# Altium schematic symbol library FPGA_Xilinx_Artix7.SchLib: 27 symbols (part 4 of 5)
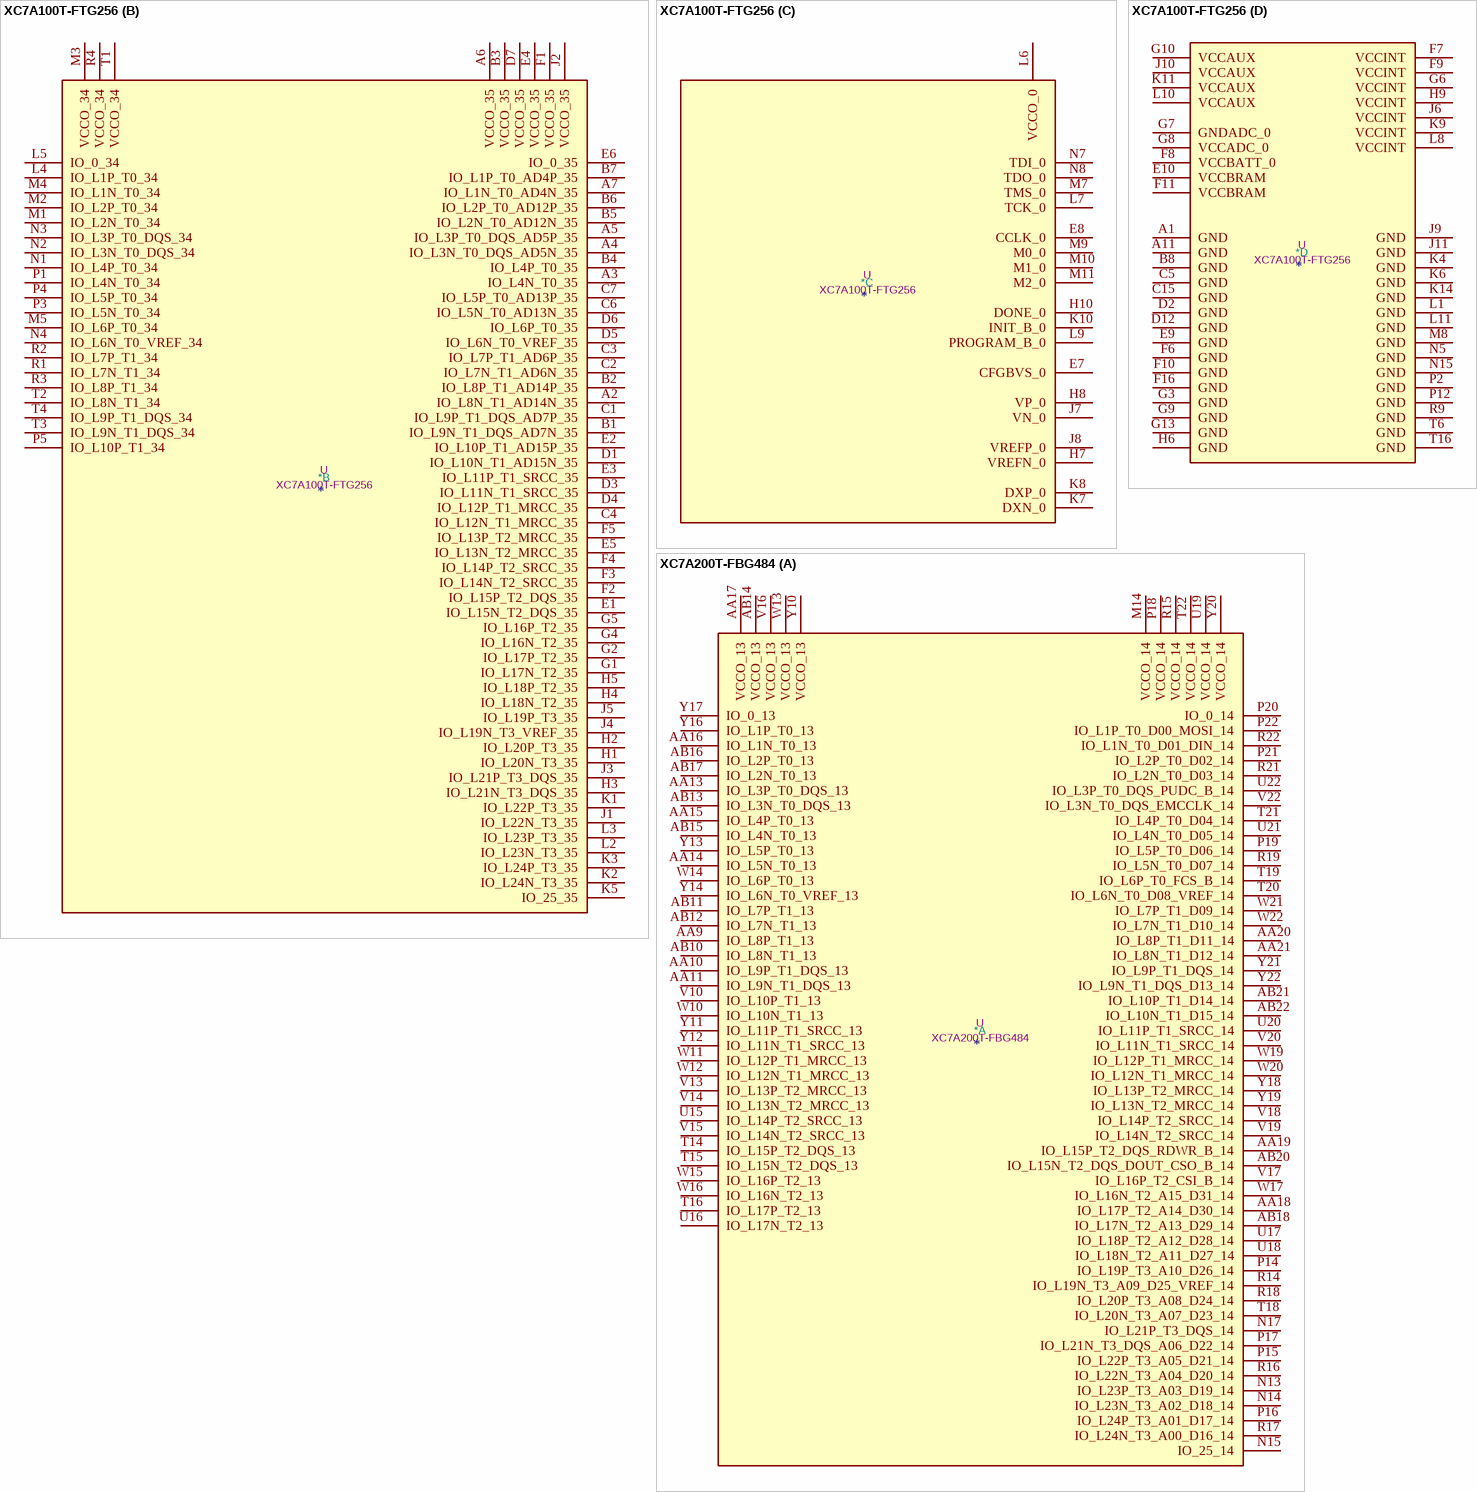
[diagram p50: symbols XC7A100T-FTG256 to XC7A200T-FBG484]

## XC7A100T-FTG256
designator *  value XC7A100T-FTG256  Reference: U
Artix 7 T 100 XC7A100T-FTG256; ki_keywords: FPGA; Description_: Artix 7 T 100 XC7A100T-FTG256
part A pins: A8 IO_L2P_T0_AD8P_15, A9 IO_L2N_T0_AD8N_15, A10 IO_L3N_T0_DQS_AD1N_15, A12 IO_L5N_T0_AD9N_15, A13 IO_L7P_T1_AD2P_15, A14 IO_L7N_T1_AD2N_15, A15 IO_L9N_T1_DQS_AD3N_15, A16 VCCO_15, B9 IO_L3P_T0_DQS_AD1P_15, B10 IO_L4P_T0_15, B11 IO_L4N_T0_15, B12 IO_L5P_T0_AD9P_15, B13 VCCO_15, B14 IO_L8N_T1_AD10N_15, B15 IO_L9P_T1_DQS_AD3P_15, B16 IO_L10N_T1_AD11N_15, C8 IO_L1P_T0_AD0P_15, C9 IO_L1N_T0_AD0N_15, C10 VCCO_15, C11 IO_L11P_T1_SRCC_15, C12 IO_L11N_T1_SRCC_15, C13 IO_L12N_T1_MRCC_15, C14 IO_L8P_T1_AD10P_15, C16 IO_L10P_T1_AD11P_15, D8 IO_L6P_T0_15, D9 IO_L6N_T0_VREF_15, D10 IO_0_15, D11 IO_L14N_T2_SRCC_15, D13 IO_L12P_T1_MRCC_15, D14 IO_L15P_T2_DQS_15, D15 IO_L15N_T2_DQS_ADV_B_15, D16 IO_L17N_T2_A25_15, E11 IO_L14P_T2_SRCC_15, E12 IO_L13P_T2_MRCC_15, E13 IO_L13N_T2_MRCC_15, E14 VCCO_15, E15 IO_L18N_T2_A23_15, E16 IO_L17P_T2_A26_15, F12 IO_L16P_T2_A28_15, F13 IO_L16N_T2_A27_15, F14 IO_L21N_T3_DQS_A18_15, F15 IO_L18P_T2_A24_15, G11 IO_25_15, G12 IO_L19N_T3_A21_VREF_15, G14 IO_L21P_T3_DQS_15, G15 IO_L24N_T3_RS0_15, G16 IO_L22N_T3_A16_15, H11 IO_L19P_T3_A22_15, H12 IO_L20P_T3_A20_15, H13 IO_L20N_T3_A19_15, H14 IO_L24P_T3_RS1_15, H15 VCCO_15, H16 IO_L22P_T3_A17_15, J12 VCCO_15, J13 IO_L1P_T0_D00_MOSI_14, J14 IO_L1N_T0_D01_DIN_14, J15 IO_L23P_T3_FOE_B_15, J16 IO_L23N_T3_FWE_B_15, K12 IO_0_14, K13 IO_L5P_T0_D06_14, K15 IO_L2P_T0_D02_14, K16 IO_L2N_T0_D03_14, L12 IO_L6P_T0_FCS_B_14, L13 IO_L5N_T0_D07_14, L14 IO_L4P_T0_D04_14, L15 IO_L3P_T0_DQS_PUDC_B_14, L16 VCCO_14, M6 IO_L19P_T3_A10_D26_14, M12 IO_L6N_T0_D08_VREF_14, M13 VCCO_14, M14 IO_L4N_T0_D05_14, M15 IO_L3N_T0_DQS_EMCCLK_14, M16 IO_L7P_T1_D09_14, N6 IO_L19N_T3_A09_D25_VREF_14, N9 IO_L18P_T2_A12_D28_14, N10 VCCO_14, N11 IO_L13P_T2_MRCC_14, N12 IO_L13N_T2_MRCC_14, N13 IO_L11P_T1_SRCC_14, N14 IO_L12P_T1_MRCC_14, N16 IO_L7N_T1_D10_14, P6 IO_25_14, P7 VCCO_14, P8 IO_L20P_T3_A08_D24_14, P9 IO_L18N_T2_A11_D27_14, P10 IO_L14P_T2_SRCC_14, P11 IO_L14N_T2_SRCC_14, P13 IO_L11N_T1_SRCC_14, P14 IO_L12N_T1_MRCC_14, P15 IO_L8P_T1_D11_14, P16 IO_L8N_T1_D12_14, R5 IO_L23P_T3_A03_D19_14, R6 IO_L24P_T3_A01_D17_14, R7 IO_L24N_T3_A00_D16_14, R8 IO_L20N_T3_A07_D23_14, R10 IO_L17P_T2_A14_D30_14, R11 IO_L17N_T2_A13_D29_14, R12 IO_L15P_T2_DQS_RDWR_B_14, R13 IO_L16P_T2_CSI_B_14, R14 VCCO_14, R15 IO_L9P_T1_DQS_14, R16 IO_L9N_T1_DQS_D13_14, T5 IO_L23N_T3_A02_D18_14, T7 IO_L21P_T3_DQS_14, T8 IO_L21N_T3_DQS_A06_D22_14, T9 IO_L22P_T3_A05_D21_14, T10 IO_L22N_T3_A04_D20_14, T11 VCCO_14, T12 IO_L15N_T2_DQS_DOUT_CSO_B_14, T13 IO_L16N_T2_A15_D31_14, T14 IO_L10P_T1_D14_14, T15 IO_L10N_T1_D15_14
part B pins: A2 IO_L8N_T1_AD14N_35, A3 IO_L4N_T0_35, A4 IO_L3N_T0_DQS_AD5N_35, A5 IO_L3P_T0_DQS_AD5P_35, A6 VCCO_35, A7 IO_L1N_T0_AD4N_35, B1 IO_L9N_T1_DQS_AD7N_35, B2 IO_L8P_T1_AD14P_35, B3 VCCO_35, B4 IO_L4P_T0_35, B5 IO_L2N_T0_AD12N_35, B6 IO_L2P_T0_AD12P_35, B7 IO_L1P_T0_AD4P_35, C1 IO_L9P_T1_DQS_AD7P_35, C2 IO_L7N_T1_AD6N_35, C3 IO_L7P_T1_AD6P_35, C4 IO_L12N_T1_MRCC_35, C6 IO_L5N_T0_AD13N_35, C7 IO_L5P_T0_AD13P_35, D1 IO_L10N_T1_AD15N_35, D3 IO_L11N_T1_SRCC_35, D4 IO_L12P_T1_MRCC_35, D5 IO_L6N_T0_VREF_35, D6 IO_L6P_T0_35, D7 VCCO_35, E1 IO_L15N_T2_DQS_35, E2 IO_L10P_T1_AD15P_35, E3 IO_L11P_T1_SRCC_35, E4 VCCO_35, E5 IO_L13N_T2_MRCC_35, E6 IO_0_35, F1 VCCO_35, F2 IO_L15P_T2_DQS_35, F3 IO_L14N_T2_SRCC_35, F4 IO_L14P_T2_SRCC_35, F5 IO_L13P_T2_MRCC_35, G1 IO_L17N_T2_35, G2 IO_L17P_T2_35, G4 IO_L16N_T2_35, G5 IO_L16P_T2_35, H1 IO_L20N_T3_35, H2 IO_L20P_T3_35, H3 IO_L21N_T3_DQS_35, H4 IO_L18N_T2_35, H5 IO_L18P_T2_35, J1 IO_L22N_T3_35, J2 VCCO_35, J3 IO_L21P_T3_DQS_35, J4 IO_L19N_T3_VREF_35, J5 IO_L19P_T3_35, K1 IO_L22P_T3_35, K2 IO_L24N_T3_35, K3 IO_L24P_T3_35, K5 IO_25_35, L2 IO_L23N_T3_35, L3 IO_L23P_T3_35, L4 IO_L1P_T0_34, L5 IO_0_34, M1 IO_L2N_T0_34, M2 IO_L2P_T0_34, M3 VCCO_34, M4 IO_L1N_T0_34, M5 IO_L6P_T0_34, N1 IO_L4P_T0_34, N2 IO_L3N_T0_DQS_34, N3 IO_L3P_T0_DQS_34, N4 IO_L6N_T0_VREF_34, P1 IO_L4N_T0_34, P3 IO_L5N_T0_34, P4 IO_L5P_T0_34, P5 IO_L10P_T1_34, R1 IO_L7N_T1_34, R2 IO_L7P_T1_34, R3 IO_L8P_T1_34, R4 VCCO_34, T1 VCCO_34, T2 IO_L8N_T1_34, T3 IO_L9N_T1_DQS_34, T4 IO_L9P_T1_DQS_34
part C pins: E7 CFGBVS_0, E8 CCLK_0, H7 VREFN_0, H8 VP_0, H10 DONE_0, J7 VN_0, J8 VREFP_0, K7 DXN_0, K8 DXP_0, K10 INIT_B_0, L6 VCCO_0, L7 TCK_0, L9 PROGRAM_B_0, M7 TMS_0, M9 M0_0, M10 M1_0, M11 M2_0, N7 TDI_0, N8 TDO_0
part D pins: A1 GND, A11 GND, B8 GND, C5 GND, C15 GND, D2 GND, D12 GND, E9 GND, E10 VCCBRAM, F6 GND, F7 VCCINT, F8 VCCBATT_0, F9 VCCINT, F10 GND, F11 VCCBRAM, F16 GND, G3 GND, G6 VCCINT, G7 GNDADC_0, G8 VCCADC_0, G9 GND, G10 VCCAUX, G13 GND, H6 GND, H9 VCCINT, J6 VCCINT, J9 GND, J10 VCCAUX, J11 GND, K4 GND, K6 GND, K9 VCCINT, K11 VCCAUX, K14 GND, L1 GND, L8 VCCINT, L10 VCCAUX, L11 GND, M8 GND, N5 GND, N15 GND, P2 GND, P12 GND, R9 GND, T6 GND, T16 GND

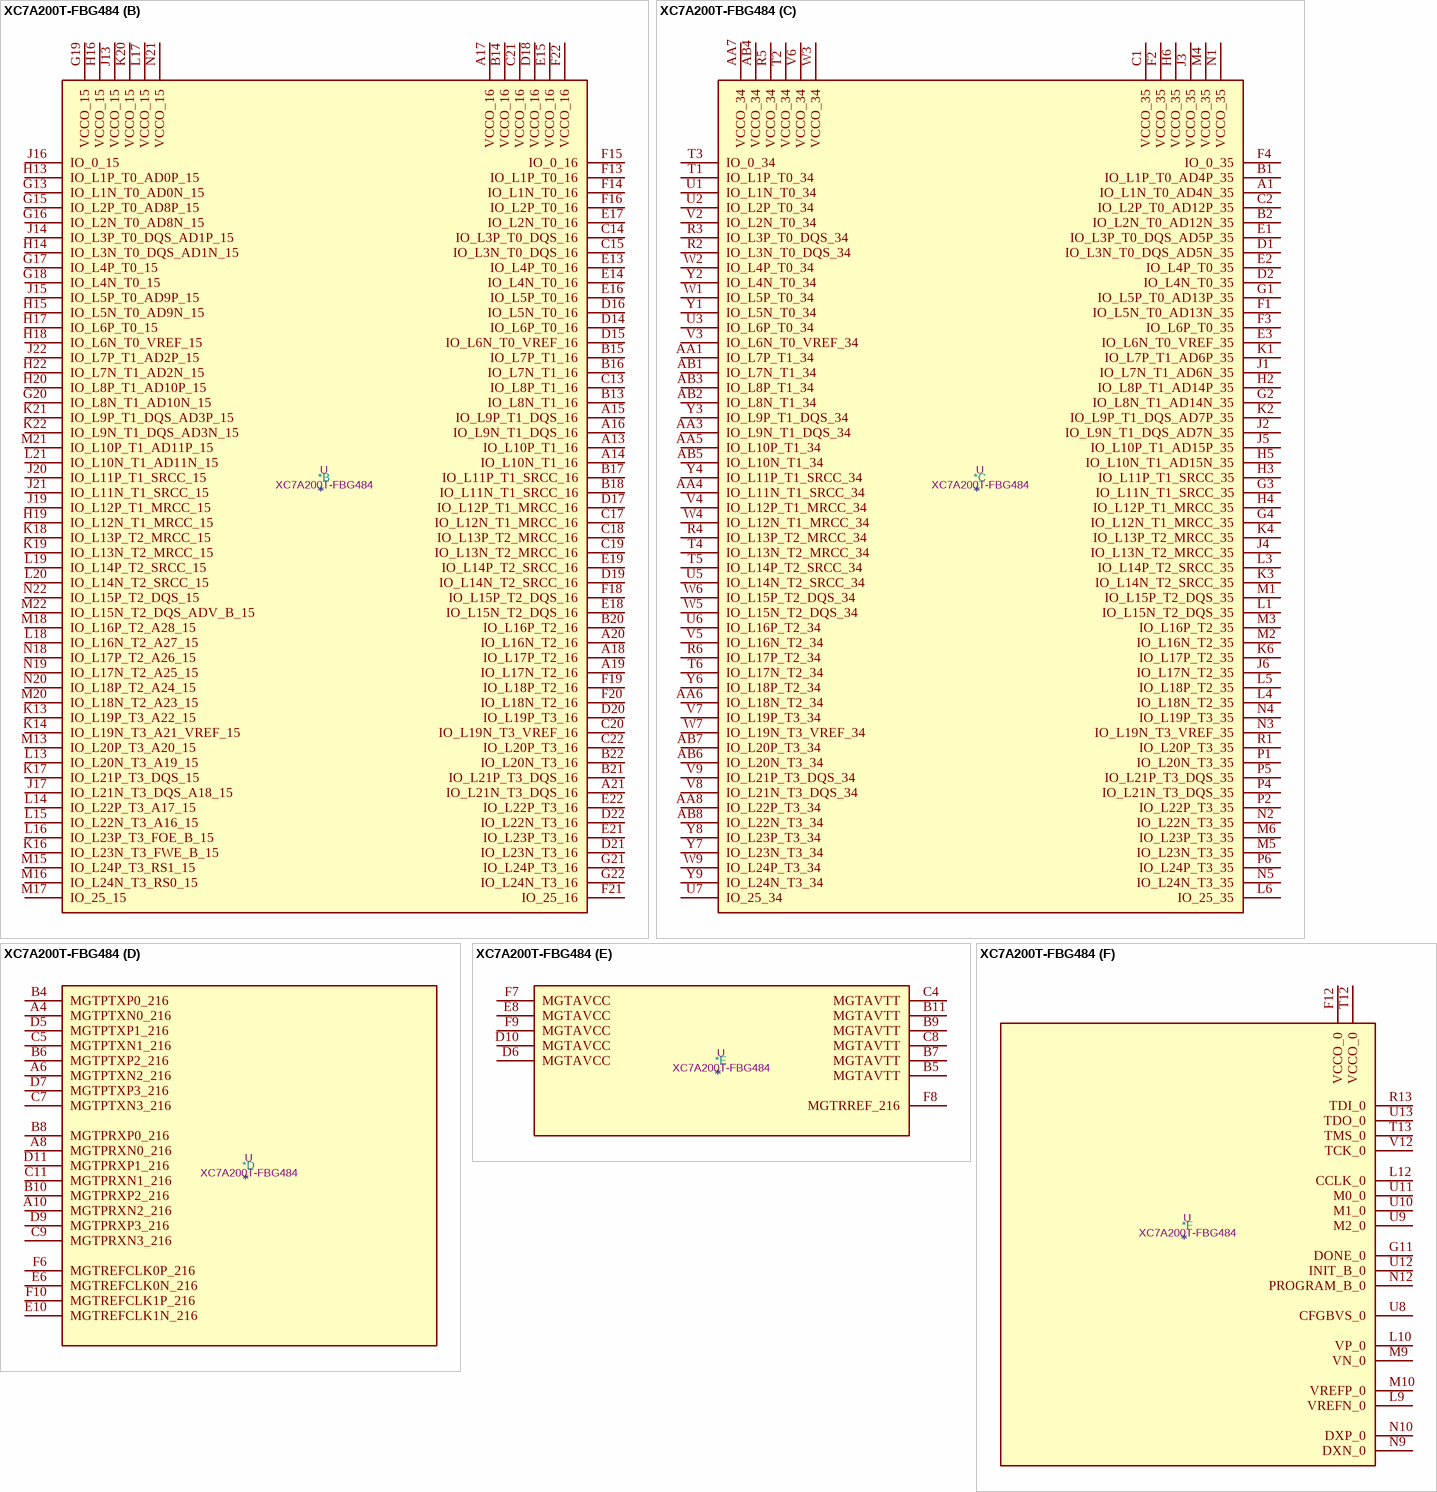
[diagram p38: symbol XC7A200T-FBG484]

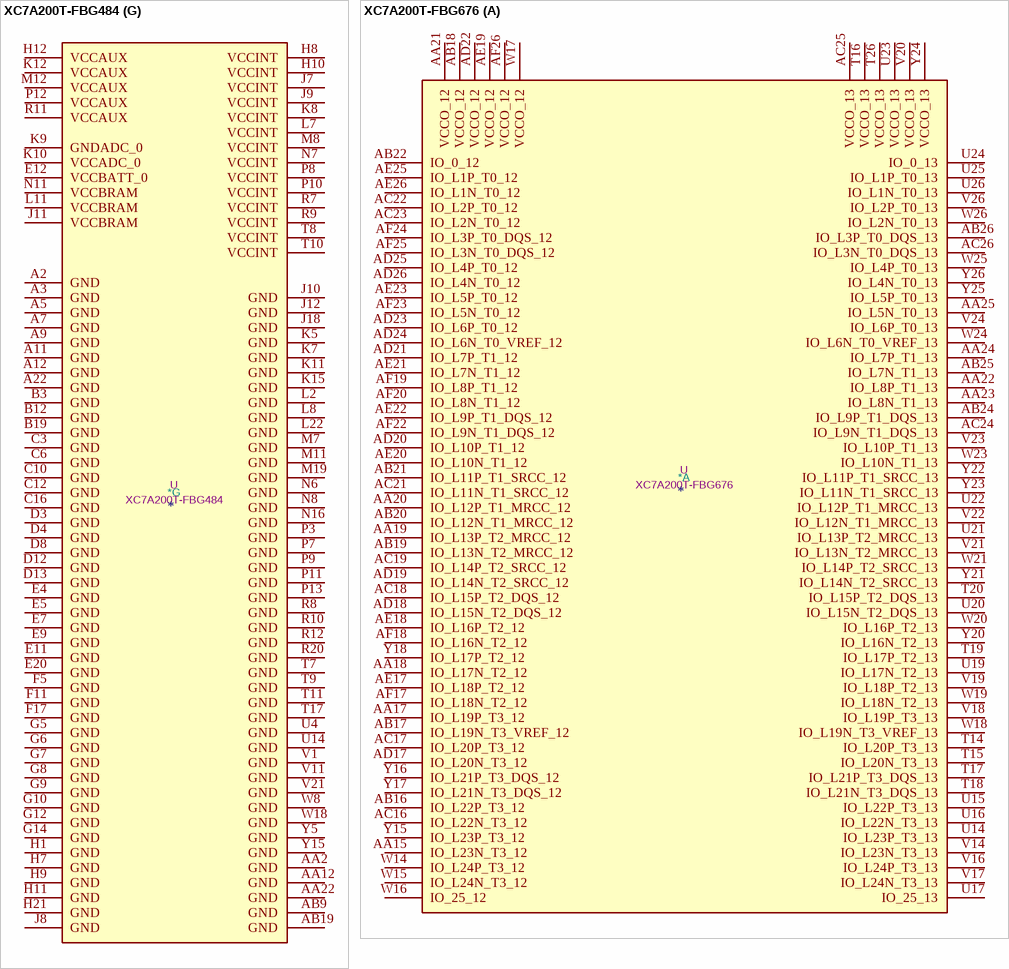
[diagram p39: symbols XC7A200T-FBG484 to XC7A200T-FBG676]

## XC7A200T-FBG484
designator *  value XC7A200T-FBG484  Reference: U
Artix 7 T 200 XC7A200T-FBG484; ki_keywords: FPGA; Description_: Artix 7 T 200 XC7A200T-FBG484
part A pins: AA9 IO_L8P_T1_13, AA10 IO_L9P_T1_DQS_13, AA11 IO_L9N_T1_DQS_13, AA13 IO_L3P_T0_DQS_13, AA14 IO_L5N_T0_13, AA15 IO_L4P_T0_13, AA16 IO_L1N_T0_13, AA17 VCCO_13, AA18 IO_L17P_T2_A14_D30_14, AA19 IO_L15P_T2_DQS_RDWR_B_14, AA20 IO_L8P_T1_D11_14, AA21 IO_L8N_T1_D12_14, AB10 IO_L8N_T1_13, AB11 IO_L7P_T1_13, AB12 IO_L7N_T1_13, AB13 IO_L3N_T0_DQS_13, AB14 VCCO_13, AB15 IO_L4N_T0_13, AB16 IO_L2P_T0_13, AB17 IO_L2N_T0_13, AB18 IO_L17N_T2_A13_D29_14, AB20 IO_L15N_T2_DQS_DOUT_CSO_B_14, AB21 IO_L10P_T1_D14_14, AB22 IO_L10N_T1_D15_14, M14 VCCO_14, N13 IO_L23P_T3_A03_D19_14, N14 IO_L23N_T3_A02_D18_14, N15 IO_25_14, N17 IO_L21P_T3_DQS_14, P14 IO_L19P_T3_A10_D26_14, P15 IO_L22P_T3_A05_D21_14, P16 IO_L24P_T3_A01_D17_14, P17 IO_L21N_T3_DQS_A06_D22_14, P18 VCCO_14, P19 IO_L5P_T0_D06_14, P20 IO_0_14, P21 IO_L2P_T0_D02_14, P22 IO_L1P_T0_D00_MOSI_14, R14 IO_L19N_T3_A09_D25_VREF_14, R15 VCCO_14, R16 IO_L22N_T3_A04_D20_14, R17 IO_L24N_T3_A00_D16_14, R18 IO_L20P_T3_A08_D24_14, R19 IO_L5N_T0_D07_14, R21 IO_L2N_T0_D03_14, R22 IO_L1N_T0_D01_DIN_14, T14 IO_L15P_T2_DQS_13, T15 IO_L15N_T2_DQS_13, T16 IO_L17P_T2_13, T18 IO_L20N_T3_A07_D23_14, T19 IO_L6P_T0_FCS_B_14, T20 IO_L6N_T0_D08_VREF_14, T21 IO_L4P_T0_D04_14, T22 VCCO_14, U15 IO_L14P_T2_SRCC_13, U16 IO_L17N_T2_13, U17 IO_L18P_T2_A12_D28_14, U18 IO_L18N_T2_A11_D27_14, U19 VCCO_14, U20 IO_L11P_T1_SRCC_14, U21 IO_L4N_T0_D05_14, U22 IO_L3P_T0_DQS_PUDC_B_14, V10 IO_L10P_T1_13, V13 IO_L13P_T2_MRCC_13, V14 IO_L13N_T2_MRCC_13, V15 IO_L14N_T2_SRCC_13, V16 VCCO_13, V17 IO_L16P_T2_CSI_B_14, V18 IO_L14P_T2_SRCC_14, V19 IO_L14N_T2_SRCC_14, V20 IO_L11N_T1_SRCC_14, V22 IO_L3N_T0_DQS_EMCCLK_14, W10 IO_L10N_T1_13, W11 IO_L12P_T1_MRCC_13, W12 IO_L12N_T1_MRCC_13, W13 VCCO_13, W14 IO_L6P_T0_13, W15 IO_L16P_T2_13, W16 IO_L16N_T2_13, W17 IO_L16N_T2_A15_D31_14, W19 IO_L12P_T1_MRCC_14, W20 IO_L12N_T1_MRCC_14, W21 IO_L7P_T1_D09_14, W22 IO_L7N_T1_D10_14, Y10 VCCO_13, Y11 IO_L11P_T1_SRCC_13, Y12 IO_L11N_T1_SRCC_13, Y13 IO_L5P_T0_13, Y14 IO_L6N_T0_VREF_13, Y16 IO_L1P_T0_13, Y17 IO_0_13, Y18 IO_L13P_T2_MRCC_14, Y19 IO_L13N_T2_MRCC_14, Y20 VCCO_14, Y21 IO_L9P_T1_DQS_14, Y22 IO_L9N_T1_DQS_D13_14
part B pins: A13 IO_L10P_T1_16, A14 IO_L10N_T1_16, A15 IO_L9P_T1_DQS_16, A16 IO_L9N_T1_DQS_16, A17 VCCO_16, A18 IO_L17P_T2_16, A19 IO_L17N_T2_16, A20 IO_L16N_T2_16, A21 IO_L21N_T3_DQS_16, B13 IO_L8N_T1_16, B14 VCCO_16, B15 IO_L7P_T1_16, B16 IO_L7N_T1_16, B17 IO_L11P_T1_SRCC_16, B18 IO_L11N_T1_SRCC_16, B20 IO_L16P_T2_16, B21 IO_L21P_T3_DQS_16, B22 IO_L20N_T3_16, C13 IO_L8P_T1_16, C14 IO_L3P_T0_DQS_16, C15 IO_L3N_T0_DQS_16, C17 IO_L12N_T1_MRCC_16, C18 IO_L13P_T2_MRCC_16, C19 IO_L13N_T2_MRCC_16, C20 IO_L19N_T3_VREF_16, C21 VCCO_16, C22 IO_L20P_T3_16, D14 IO_L6P_T0_16, D15 IO_L6N_T0_VREF_16, D16 IO_L5N_T0_16, D17 IO_L12P_T1_MRCC_16, D18 VCCO_16, D19 IO_L14N_T2_SRCC_16, D20 IO_L19P_T3_16, D21 IO_L23N_T3_16, D22 IO_L22N_T3_16, E13 IO_L4P_T0_16, E14 IO_L4N_T0_16, E15 VCCO_16, E16 IO_L5P_T0_16, E17 IO_L2N_T0_16, E18 IO_L15N_T2_DQS_16, E19 IO_L14P_T2_SRCC_16, E21 IO_L23P_T3_16, E22 IO_L22P_T3_16, F13 IO_L1P_T0_16, F14 IO_L1N_T0_16, F15 IO_0_16, F16 IO_L2P_T0_16, F18 IO_L15P_T2_DQS_16, F19 IO_L18P_T2_16, F20 IO_L18N_T2_16, F21 IO_25_16, F22 VCCO_16, G13 IO_L1N_T0_AD0N_15, G15 IO_L2P_T0_AD8P_15, G16 IO_L2N_T0_AD8N_15, G17 IO_L4P_T0_15, G18 IO_L4N_T0_15, G19 VCCO_15, G20 IO_L8N_T1_AD10N_15, G21 IO_L24P_T3_16, G22 IO_L24N_T3_16, H13 IO_L1P_T0_AD0P_15, H14 IO_L3N_T0_DQS_AD1N_15, H15 IO_L5N_T0_AD9N_15, H16 VCCO_15, H17 IO_L6P_T0_15, H18 IO_L6N_T0_VREF_15, H19 IO_L12N_T1_MRCC_15, H20 IO_L8P_T1_AD10P_15, H22 IO_L7N_T1_AD2N_15, J13 VCCO_15, J14 IO_L3P_T0_DQS_AD1P_15, J15 IO_L5P_T0_AD9P_15, J16 IO_0_15, J17 IO_L21N_T3_DQS_A18_15, J19 IO_L12P_T1_MRCC_15, J20 IO_L11P_T1_SRCC_15, J21 IO_L11N_T1_SRCC_15, J22 IO_L7P_T1_AD2P_15, K13 IO_L19P_T3_A22_15, K14 IO_L19N_T3_A21_VREF_15, K16 IO_L23N_T3_FWE_B_15, K17 IO_L21P_T3_DQS_15, K18 IO_L13P_T2_MRCC_15, K19 IO_L13N_T2_MRCC_15, K20 VCCO_15, K21 IO_L9P_T1_DQS_AD3P_15, K22 IO_L9N_T1_DQS_AD3N_15, L13 IO_L20N_T3_A19_15, L14 IO_L22P_T3_A17_15, L15 IO_L22N_T3_A16_15, L16 IO_L23P_T3_FOE_B_15, L17 VCCO_15, L18 IO_L16N_T2_A27_15, L19 IO_L14P_T2_SRCC_15, L20 IO_L14N_T2_SRCC_15, L21 IO_L10N_T1_AD11N_15, M13 IO_L20P_T3_A20_15, M15 IO_L24P_T3_RS1_15, M16 IO_L24N_T3_RS0_15, M17 IO_25_15, M18 IO_L16P_T2_A28_15, M20 IO_L18N_T2_A23_15, M21 IO_L10P_T1_AD11P_15, M22 IO_L15N_T2_DQS_ADV_B_15, N18 IO_L17P_T2_A26_15, N19 IO_L17N_T2_A25_15, N20 IO_L18P_T2_A24_15, N21 VCCO_15, N22 IO_L15P_T2_DQS_15
part C pins: A1 IO_L1N_T0_AD4N_35, AA1 IO_L7P_T1_34, AA3 IO_L9N_T1_DQS_34, AA4 IO_L11N_T1_SRCC_34, AA5 IO_L10P_T1_34, AA6 IO_L18N_T2_34, AA7 VCCO_34, AA8 IO_L22P_T3_34, AB1 IO_L7N_T1_34, AB2 IO_L8N_T1_34, AB3 IO_L8P_T1_34, AB4 VCCO_34, AB5 IO_L10N_T1_34, AB6 IO_L20N_T3_34, AB7 IO_L20P_T3_34, AB8 IO_L22N_T3_34, B1 IO_L1P_T0_AD4P_35, B2 IO_L2N_T0_AD12N_35, C1 VCCO_35, C2 IO_L2P_T0_AD12P_35, D1 IO_L3N_T0_DQS_AD5N_35, D2 IO_L4N_T0_35, E1 IO_L3P_T0_DQS_AD5P_35, E2 IO_L4P_T0_35, E3 IO_L6N_T0_VREF_35, F1 IO_L5N_T0_AD13N_35, F2 VCCO_35, F3 IO_L6P_T0_35, F4 IO_0_35, G1 IO_L5P_T0_AD13P_35, G2 IO_L8N_T1_AD14N_35, G3 IO_L11N_T1_SRCC_35, G4 IO_L12N_T1_MRCC_35, H2 IO_L8P_T1_AD14P_35, H3 IO_L11P_T1_SRCC_35, H4 IO_L12P_T1_MRCC_35, H5 IO_L10N_T1_AD15N_35, H6 VCCO_35, J1 IO_L7N_T1_AD6N_35, J2 IO_L9N_T1_DQS_AD7N_35, J3 VCCO_35, J4 IO_L13N_T2_MRCC_35, J5 IO_L10P_T1_AD15P_35, J6 IO_L17N_T2_35, K1 IO_L7P_T1_AD6P_35, K2 IO_L9P_T1_DQS_AD7P_35, K3 IO_L14N_T2_SRCC_35, K4 IO_L13P_T2_MRCC_35, K6 IO_L17P_T2_35, L1 IO_L15N_T2_DQS_35, L3 IO_L14P_T2_SRCC_35, L4 IO_L18N_T2_35, L5 IO_L18P_T2_35, L6 IO_25_35, M1 IO_L15P_T2_DQS_35, M2 IO_L16N_T2_35, M3 IO_L16P_T2_35, M4 VCCO_35, M5 IO_L23N_T3_35, M6 IO_L23P_T3_35, N1 VCCO_35, N2 IO_L22N_T3_35, N3 IO_L19N_T3_VREF_35, N4 IO_L19P_T3_35, N5 IO_L24N_T3_35, P1 IO_L20N_T3_35, P2 IO_L22P_T3_35, P4 IO_L21N_T3_DQS_35, P5 IO_L21P_T3_DQS_35, P6 IO_L24P_T3_35, R1 IO_L20P_T3_35, R2 IO_L3N_T0_DQS_34, R3 IO_L3P_T0_DQS_34, R4 IO_L13P_T2_MRCC_34, R5 VCCO_34, R6 IO_L17P_T2_34, T1 IO_L1P_T0_34, T2 VCCO_34, T3 IO_0_34, T4 IO_L13N_T2_MRCC_34, T5 IO_L14P_T2_SRCC_34, T6 IO_L17N_T2_34, U1 IO_L1N_T0_34, U2 IO_L2P_T0_34, U3 IO_L6P_T0_34, U5 IO_L14N_T2_SRCC_34, U6 IO_L16P_T2_34, U7 IO_25_34, V2 IO_L2N_T0_34, V3 IO_L6N_T0_VREF_34, V4 IO_L12P_T1_MRCC_34, V5 IO_L16N_T2_34, V6 VCCO_34, V7 IO_L19P_T3_34, V8 IO_L21N_T3_DQS_34, V9 IO_L21P_T3_DQS_34, W1 IO_L5P_T0_34, W2 IO_L4P_T0_34, W3 VCCO_34, W4 IO_L12N_T1_MRCC_34, W5 IO_L15N_T2_DQS_34, W6 IO_L15P_T2_DQS_34, W7 IO_L19N_T3_VREF_34, W9 IO_L24P_T3_34, Y1 IO_L5N_T0_34, Y2 IO_L4N_T0_34, Y3 IO_L9P_T1_DQS_34, Y4 IO_L11P_T1_SRCC_34, Y6 IO_L18P_T2_34, Y7 IO_L23N_T3_34, Y8 IO_L23P_T3_34, Y9 IO_L24N_T3_34
part D pins: A4 MGTPTXN0_216, A6 MGTPTXN2_216, A8 MGTPRXN0_216, A10 MGTPRXN2_216, B4 MGTPTXP0_216, B6 MGTPTXP2_216, B8 MGTPRXP0_216, B10 MGTPRXP2_216, C5 MGTPTXN1_216, C7 MGTPTXN3_216, C9 MGTPRXN3_216, C11 MGTPRXN1_216, D5 MGTPTXP1_216, D7 MGTPTXP3_216, D9 MGTPRXP3_216, D11 MGTPRXP1_216, E6 MGTREFCLK0N_216, E10 MGTREFCLK1N_216, F6 MGTREFCLK0P_216, F10 MGTREFCLK1P_216
part E pins: B5 MGTAVTT, B7 MGTAVTT, B9 MGTAVTT, B11 MGTAVTT, C4 MGTAVTT, C8 MGTAVTT, D6 MGTAVCC, D10 MGTAVCC, E8 MGTAVCC, F7 MGTAVCC, F8 MGTRREF_216, F9 MGTAVCC
part F pins: F12 VCCO_0, G11 DONE_0, L9 VREFN_0, L10 VP_0, L12 CCLK_0, M9 VN_0, M10 VREFP_0, N9 DXN_0, N10 DXP_0, N12 PROGRAM_B_0, R13 TDI_0, T12 VCCO_0, T13 TMS_0, U8 CFGBVS_0, U9 M2_0, U10 M1_0, U11 M0_0, U12 INIT_B_0, U13 TDO_0, V12 TCK_0
part G pins: A2 GND, A3 GND, A5 GND, A7 GND, A9 GND, A11 GND, A12 GND, A22 GND, AA2 GND, AA12 GND, AA22 GND, AB9 GND, AB19 GND, B3 GND, B12 GND, B19 GND, C3 GND, C6 GND, C10 GND, C12 GND, C16 GND, D3 GND, D4 GND, D8 GND, D12 GND, D13 GND, E4 GND, E5 GND, E7 GND, E9 GND, E11 GND, E12 VCCBATT_0, E20 GND, F5 GND, F11 GND, F17 GND, G5 GND, G6 GND, G7 GND, G8 GND, G9 GND, G10 GND, G12 GND, G14 GND, H1 GND, H7 GND, H8 VCCINT, H9 GND, H10 VCCINT, H11 GND, H12 VCCAUX, H21 GND, J7 VCCINT, J8 GND, J9 VCCINT, J10 GND, J11 VCCBRAM, J12 GND, J18 GND, K5 GND, K7 GND, K8 VCCINT, K9 GNDADC_0, K10 VCCADC_0, K11 GND, K12 VCCAUX, K15 GND, L2 GND, L7 VCCINT, L8 GND, L11 VCCBRAM, L22 GND, M7 GND, M8 VCCINT, M11 GND, M12 VCCAUX, M19 GND, N6 GND, N7 VCCINT, N8 GND, N11 VCCBRAM, N16 GND, P3 GND, P7 GND, P8 VCCINT, P9 GND, P10 VCCINT, P11 GND, P12 VCCAUX, P13 GND, R7 VCCINT, R8 GND, R9 VCCINT, R10 GND, R11 VCCAUX, R12 GND, R20 GND, T7 GND, T8 VCCINT, T9 GND, T10 VCCINT, T11 GND, T17 GND, U4 GND, U14 GND, V1 GND, V11 GND, V21 GND, W8 GND, W18 GND, Y5 GND, Y15 GND

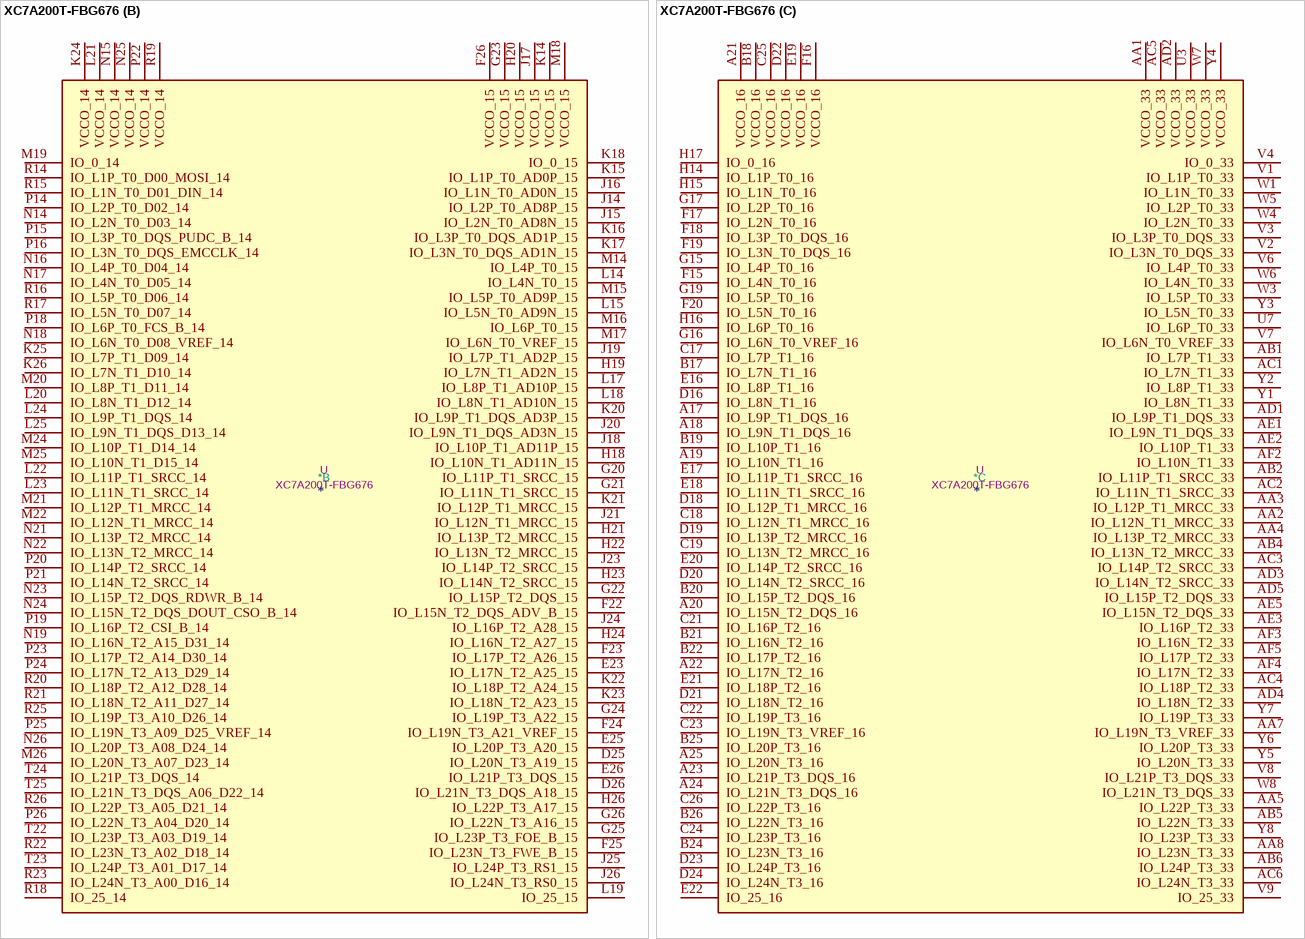
[diagram p40: symbol XC7A200T-FBG676]

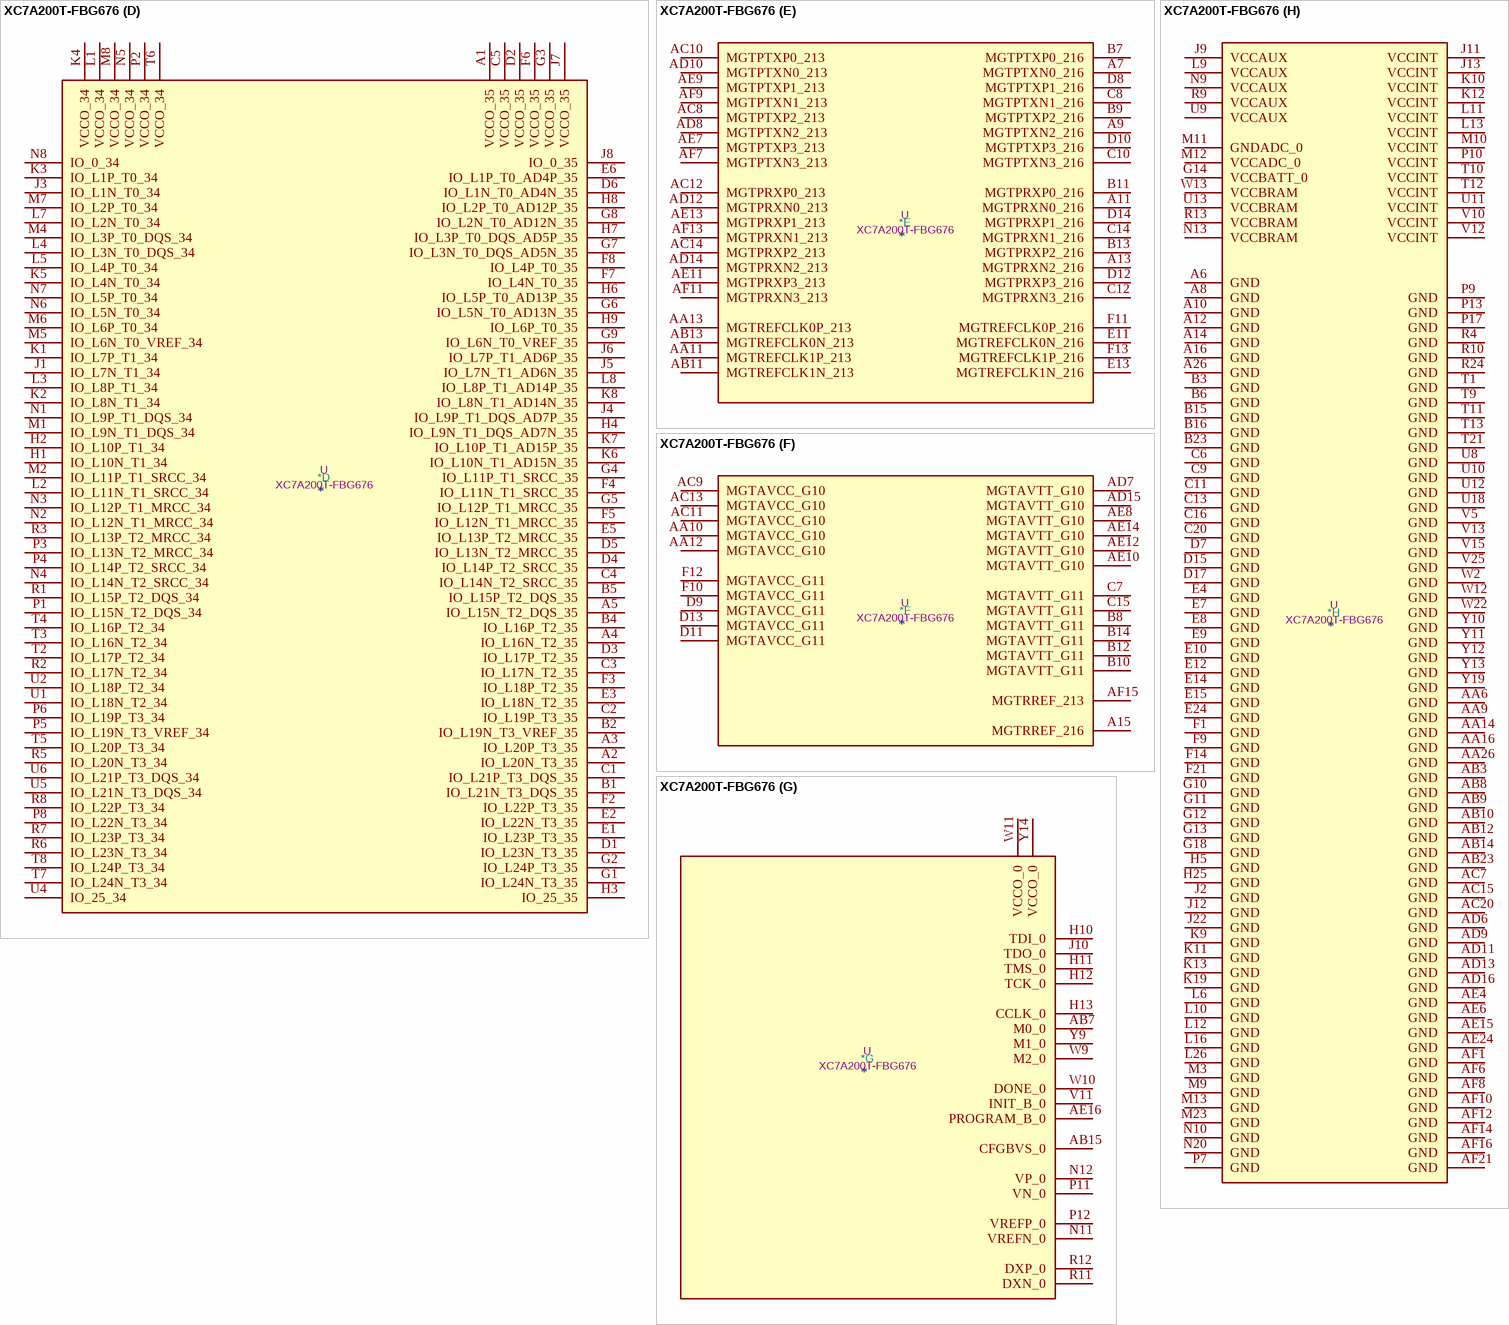
[diagram p41: symbol XC7A200T-FBG676]

## XC7A200T-FBG676
designator *  value XC7A200T-FBG676  Reference: U
Artix 7 T 200 XC7A200T-FBG676; ki_keywords: FPGA; Description_: Artix 7 T 200 XC7A200T-FBG676
part A pins: AA15 IO_L23N_T3_12, AA17 IO_L19P_T3_12, AA18 IO_L17N_T2_12, AA19 IO_L13P_T2_MRCC_12, AA20 IO_L12P_T1_MRCC_12, AA21 VCCO_12, AA22 IO_L8P_T1_13, AA23 IO_L8N_T1_13, AA24 IO_L7P_T1_13, AA25 IO_L5N_T0_13, AB16 IO_L22P_T3_12, AB17 IO_L19N_T3_VREF_12, AB18 VCCO_12, AB19 IO_L13N_T2_MRCC_12, AB20 IO_L12N_T1_MRCC_12, AB21 IO_L11P_T1_SRCC_12, AB22 IO_0_12, AB24 IO_L9P_T1_DQS_13, AB25 IO_L7N_T1_13, AB26 IO_L3P_T0_DQS_13, AC16 IO_L22N_T3_12, AC17 IO_L20P_T3_12, AC18 IO_L15P_T2_DQS_12, AC19 IO_L14P_T2_SRCC_12, AC21 IO_L11N_T1_SRCC_12, AC22 IO_L2P_T0_12, AC23 IO_L2N_T0_12, AC24 IO_L9N_T1_DQS_13, AC25 VCCO_13, AC26 IO_L3N_T0_DQS_13, AD17 IO_L20N_T3_12, AD18 IO_L15N_T2_DQS_12, AD19 IO_L14N_T2_SRCC_12, AD20 IO_L10P_T1_12, AD21 IO_L7P_T1_12, AD22 VCCO_12, AD23 IO_L6P_T0_12, AD24 IO_L6N_T0_VREF_12, AD25 IO_L4P_T0_12, AD26 IO_L4N_T0_12, AE17 IO_L18P_T2_12, AE18 IO_L16P_T2_12, AE19 VCCO_12, AE20 IO_L10N_T1_12, AE21 IO_L7N_T1_12, AE22 IO_L9P_T1_DQS_12, AE23 IO_L5P_T0_12, AE25 IO_L1P_T0_12, AE26 IO_L1N_T0_12, AF17 IO_L18N_T2_12, AF18 IO_L16N_T2_12, AF19 IO_L8P_T1_12, AF20 IO_L8N_T1_12, AF22 IO_L9N_T1_DQS_12, AF23 IO_L5N_T0_12, AF24 IO_L3P_T0_DQS_12, AF25 IO_L3N_T0_DQS_12, AF26 VCCO_12, T14 IO_L20P_T3_13, T15 IO_L20N_T3_13, T16 VCCO_13, T17 IO_L21P_T3_DQS_13, T18 IO_L21N_T3_DQS_13, T19 IO_L17P_T2_13, T20 IO_L15P_T2_DQS_13, T26 VCCO_13, U14 IO_L23P_T3_13, U15 IO_L22P_T3_13, U16 IO_L22N_T3_13, U17 IO_25_13, U19 IO_L17N_T2_13, U20 IO_L15N_T2_DQS_13, U21 IO_L13P_T2_MRCC_13, U22 IO_L12P_T1_MRCC_13, U23 VCCO_13, U24 IO_0_13, U25 IO_L1P_T0_13, U26 IO_L1N_T0_13, V14 IO_L23N_T3_13, V16 IO_L24P_T3_13, V17 IO_L24N_T3_13, V18 IO_L19P_T3_13, V19 IO_L18P_T2_13, V20 VCCO_13, V21 IO_L13N_T2_MRCC_13, V22 IO_L12N_T1_MRCC_13, V23 IO_L10P_T1_13, V24 IO_L6P_T0_13, V26 IO_L2P_T0_13, W14 IO_L24P_T3_12, W15 IO_L24N_T3_12, W16 IO_25_12, W17 VCCO_12, W18 IO_L19N_T3_VREF_13, W19 IO_L18N_T2_13, W20 IO_L16P_T2_13, W21 IO_L14P_T2_SRCC_13, W23 IO_L10N_T1_13, W24 IO_L6N_T0_VREF_13, W25 IO_L4P_T0_13, W26 IO_L2N_T0_13, Y15 IO_L23P_T3_12, Y16 IO_L21P_T3_DQS_12, Y17 IO_L21N_T3_DQS_12, Y18 IO_L17P_T2_12, Y20 IO_L16N_T2_13, Y21 IO_L14N_T2_SRCC_13, Y22 IO_L11P_T1_SRCC_13, Y23 IO_L11N_T1_SRCC_13, Y24 VCCO_13, Y25 IO_L5P_T0_13, Y26 IO_L4N_T0_13
part B pins: D25 IO_L20N_T3_A19_15, D26 IO_L21N_T3_DQS_A18_15, E23 IO_L17N_T2_A25_15, E25 IO_L20P_T3_A20_15, E26 IO_L21P_T3_DQS_15, F22 IO_L15N_T2_DQS_ADV_B_15, F23 IO_L17P_T2_A26_15, F24 IO_L19N_T3_A21_VREF_15, F25 IO_L23N_T3_FWE_B_15, F26 VCCO_15, G20 IO_L11P_T1_SRCC_15, G21 IO_L11N_T1_SRCC_15, G22 IO_L15P_T2_DQS_15, G23 VCCO_15, G24 IO_L19P_T3_A22_15, G25 IO_L23P_T3_FOE_B_15, G26 IO_L22N_T3_A16_15, H18 IO_L10N_T1_AD11N_15, H19 IO_L7N_T1_AD2N_15, H20 VCCO_15, H21 IO_L13P_T2_MRCC_15, H22 IO_L13N_T2_MRCC_15, H23 IO_L14N_T2_SRCC_15, H24 IO_L16N_T2_A27_15, H26 IO_L22P_T3_A17_15, J14 IO_L2P_T0_AD8P_15, J15 IO_L2N_T0_AD8N_15, J16 IO_L1N_T0_AD0N_15, J17 VCCO_15, J18 IO_L10P_T1_AD11P_15, J19 IO_L7P_T1_AD2P_15, J20 IO_L9N_T1_DQS_AD3N_15, J21 IO_L12N_T1_MRCC_15, J23 IO_L14P_T2_SRCC_15, J24 IO_L16P_T2_A28_15, J25 IO_L24P_T3_RS1_15, J26 IO_L24N_T3_RS0_15, K14 VCCO_15, K15 IO_L1P_T0_AD0P_15, K16 IO_L3P_T0_DQS_AD1P_15, K17 IO_L3N_T0_DQS_AD1N_15, K18 IO_0_15, K20 IO_L9P_T1_DQS_AD3P_15, K21 IO_L12P_T1_MRCC_15, K22 IO_L18P_T2_A24_15, K23 IO_L18N_T2_A23_15, K24 VCCO_14, K25 IO_L7P_T1_D09_14, K26 IO_L7N_T1_D10_14, L14 IO_L4N_T0_15, L15 IO_L5N_T0_AD9N_15, L17 IO_L8P_T1_AD10P_15, L18 IO_L8N_T1_AD10N_15, L19 IO_25_15, L20 IO_L8N_T1_D12_14, L21 VCCO_14, L22 IO_L11P_T1_SRCC_14, L23 IO_L11N_T1_SRCC_14, L24 IO_L9P_T1_DQS_14, L25 IO_L9N_T1_DQS_D13_14, M14 IO_L4P_T0_15, M15 IO_L5P_T0_AD9P_15, M16 IO_L6P_T0_15, M17 IO_L6N_T0_VREF_15, M18 VCCO_15, M19 IO_0_14, M20 IO_L8P_T1_D11_14, M21 IO_L12P_T1_MRCC_14, M22 IO_L12N_T1_MRCC_14, M24 IO_L10P_T1_D14_14, M25 IO_L10N_T1_D15_14, M26 IO_L20N_T3_A07_D23_14, N14 IO_L2N_T0_D03_14, N15 VCCO_14, N16 IO_L4P_T0_D04_14, N17 IO_L4N_T0_D05_14, N18 IO_L6N_T0_D08_VREF_14, N19 IO_L16N_T2_A15_D31_14, N21 IO_L13P_T2_MRCC_14, N22 IO_L13N_T2_MRCC_14, N23 IO_L15P_T2_DQS_RDWR_B_14, N24 IO_L15N_T2_DQS_DOUT_CSO_B_14, N25 VCCO_14, N26 IO_L20P_T3_A08_D24_14, P14 IO_L2P_T0_D02_14, P15 IO_L3P_T0_DQS_PUDC_B_14, P16 IO_L3N_T0_DQS_EMCCLK_14, P18 IO_L6P_T0_FCS_B_14, P19 IO_L16P_T2_CSI_B_14, P20 IO_L14P_T2_SRCC_14, P21 IO_L14N_T2_SRCC_14, P22 VCCO_14, P23 IO_L17P_T2_A14_D30_14, P24 IO_L17N_T2_A13_D29_14, P25 IO_L19N_T3_A09_D25_VREF_14, P26 IO_L22N_T3_A04_D20_14, R14 IO_L1P_T0_D00_MOSI_14, R15 IO_L1N_T0_D01_DIN_14, R16 IO_L5P_T0_D06_14, R17 IO_L5N_T0_D07_14, R18 IO_25_14, R19 VCCO_14, R20 IO_L18P_T2_A12_D28_14, R21 IO_L18N_T2_A11_D27_14, R22 IO_L23N_T3_A02_D18_14, R23 IO_L24N_T3_A00_D16_14, R25 IO_L19P_T3_A10_D26_14, R26 IO_L22P_T3_A05_D21_14, T22 IO_L23P_T3_A03_D19_14, T23 IO_L24P_T3_A01_D17_14, T24 IO_L21P_T3_DQS_14, T25 IO_L21N_T3_DQS_A06_D22_14
part C pins: A17 IO_L9P_T1_DQS_16, A18 IO_L9N_T1_DQS_16, A19 IO_L10N_T1_16, A20 IO_L15N_T2_DQS_16, A21 VCCO_16, A22 IO_L17N_T2_16, A23 IO_L21P_T3_DQS_16, A24 IO_L21N_T3_DQS_16, A25 IO_L20N_T3_16, AA1 VCCO_33, AA2 IO_L12N_T1_MRCC_33, AA3 IO_L12P_T1_MRCC_33, AA4 IO_L13P_T2_MRCC_33, AA5 IO_L22P_T3_33, AA7 IO_L19N_T3_VREF_33, AA8 IO_L23N_T3_33, AB1 IO_L7P_T1_33, AB2 IO_L11P_T1_SRCC_33, AB4 IO_L13N_T2_MRCC_33, AB5 IO_L22N_T3_33, AB6 IO_L24P_T3_33, AC1 IO_L7N_T1_33, AC2 IO_L11N_T1_SRCC_33, AC3 IO_L14P_T2_SRCC_33, AC4 IO_L18P_T2_33, AC5 VCCO_33, AC6 IO_L24N_T3_33, AD1 IO_L9P_T1_DQS_33, AD2 VCCO_33, AD3 IO_L14N_T2_SRCC_33, AD4 IO_L18N_T2_33, AD5 IO_L15P_T2_DQS_33, AE1 IO_L9N_T1_DQS_33, AE2 IO_L10P_T1_33, AE3 IO_L16P_T2_33, AE5 IO_L15N_T2_DQS_33, AF2 IO_L10N_T1_33, AF3 IO_L16N_T2_33, AF4 IO_L17N_T2_33, AF5 IO_L17P_T2_33, B17 IO_L7N_T1_16, B18 VCCO_16, B19 IO_L10P_T1_16, B20 IO_L15P_T2_DQS_16, B21 IO_L16N_T2_16, B22 IO_L17P_T2_16, B24 IO_L23N_T3_16, B25 IO_L20P_T3_16, B26 IO_L22N_T3_16, C17 IO_L7P_T1_16, C18 IO_L12N_T1_MRCC_16, C19 IO_L13N_T2_MRCC_16, C21 IO_L16P_T2_16, C22 IO_L19P_T3_16, C23 IO_L19N_T3_VREF_16, C24 IO_L23P_T3_16, C25 VCCO_16, C26 IO_L22P_T3_16, D16 IO_L8N_T1_16, D18 IO_L12P_T1_MRCC_16, D19 IO_L13P_T2_MRCC_16, D20 IO_L14N_T2_SRCC_16, D21 IO_L18N_T2_16, D22 VCCO_16, D23 IO_L24P_T3_16, D24 IO_L24N_T3_16, E16 IO_L8P_T1_16, E17 IO_L11P_T1_SRCC_16, E18 IO_L11N_T1_SRCC_16, E19 VCCO_16, E20 IO_L14P_T2_SRCC_16, E21 IO_L18P_T2_16, E22 IO_25_16, F15 IO_L4N_T0_16, F16 VCCO_16, F17 IO_L2N_T0_16, F18 IO_L3P_T0_DQS_16, F19 IO_L3N_T0_DQS_16, F20 IO_L5N_T0_16, G15 IO_L4P_T0_16, G16 IO_L6N_T0_VREF_16, G17 IO_L2P_T0_16, G19 IO_L5P_T0_16, H14 IO_L1P_T0_16, H15 IO_L1N_T0_16, H16 IO_L6P_T0_16, H17 IO_0_16, U3 VCCO_33, U7 IO_L6P_T0_33, V1 IO_L1P_T0_33, V2 IO_L3N_T0_DQS_33, V3 IO_L3P_T0_DQS_33, V4 IO_0_33, V6 IO_L4P_T0_33, V7 IO_L6N_T0_VREF_33, V8 IO_L21P_T3_DQS_33, V9 IO_25_33, W1 IO_L1N_T0_33, W3 IO_L5P_T0_33, W4 IO_L2N_T0_33, W5 IO_L2P_T0_33, W6 IO_L4N_T0_33, W7 VCCO_33, W8 IO_L21N_T3_DQS_33, Y1 IO_L8N_T1_33, Y2 IO_L8P_T1_33, Y3 IO_L5N_T0_33, Y4 VCCO_33, Y5 IO_L20N_T3_33, Y6 IO_L20P_T3_33, Y7 IO_L19P_T3_33, Y8 IO_L23P_T3_33
part D pins: A1 VCCO_35, A2 IO_L20N_T3_35, A3 IO_L20P_T3_35, A4 IO_L16N_T2_35, A5 IO_L15N_T2_DQS_35, B1 IO_L21N_T3_DQS_35, B2 IO_L19N_T3_VREF_35, B4 IO_L16P_T2_35, B5 IO_L15P_T2_DQS_35, C1 IO_L21P_T3_DQS_35, C2 IO_L19P_T3_35, C3 IO_L17N_T2_35, C4 IO_L14N_T2_SRCC_35, C5 VCCO_35, D1 IO_L23N_T3_35, D2 VCCO_35, D3 IO_L17P_T2_35, D4 IO_L14P_T2_SRCC_35, D5 IO_L13N_T2_MRCC_35, D6 IO_L1N_T0_AD4N_35, E1 IO_L23P_T3_35, E2 IO_L22N_T3_35, E3 IO_L18N_T2_35, E5 IO_L13P_T2_MRCC_35, E6 IO_L1P_T0_AD4P_35, F2 IO_L22P_T3_35, F3 IO_L18P_T2_35, F4 IO_L11N_T1_SRCC_35, F5 IO_L12N_T1_MRCC_35, F6 VCCO_35, F7 IO_L4N_T0_35, F8 IO_L4P_T0_35, G1 IO_L24N_T3_35, G2 IO_L24P_T3_35, G3 VCCO_35, G4 IO_L11P_T1_SRCC_35, G5 IO_L12P_T1_MRCC_35, G6 IO_L5N_T0_AD13N_35, G7 IO_L3N_T0_DQS_AD5N_35, G8 IO_L2N_T0_AD12N_35, G9 IO_L6N_T0_VREF_35, H1 IO_L10N_T1_34, H2 IO_L10P_T1_34, H3 IO_25_35, H4 IO_L9N_T1_DQS_AD7N_35, H6 IO_L5P_T0_AD13P_35, H7 IO_L3P_T0_DQS_AD5P_35, H8 IO_L2P_T0_AD12P_35, H9 IO_L6P_T0_35, J1 IO_L7N_T1_34, J3 IO_L1N_T0_34, J4 IO_L9P_T1_DQS_AD7P_35, J5 IO_L7N_T1_AD6N_35, J6 IO_L7P_T1_AD6P_35, J7 VCCO_35, J8 IO_0_35, K1 IO_L7P_T1_34, K2 IO_L8N_T1_34, K3 IO_L1P_T0_34, K4 VCCO_34, K5 IO_L4N_T0_34, K6 IO_L10N_T1_AD15N_35, K7 IO_L10P_T1_AD15P_35, K8 IO_L8N_T1_AD14N_35, L1 VCCO_34, L2 IO_L11N_T1_SRCC_34, L3 IO_L8P_T1_34, L4 IO_L3N_T0_DQS_34, L5 IO_L4P_T0_34, L7 IO_L2N_T0_34, L8 IO_L8P_T1_AD14P_35, M1 IO_L9N_T1_DQS_34, M2 IO_L11P_T1_SRCC_34, M4 IO_L3P_T0_DQS_34, M5 IO_L6N_T0_VREF_34, M6 IO_L6P_T0_34, M7 IO_L2P_T0_34, M8 VCCO_34, N1 IO_L9P_T1_DQS_34, N2 IO_L12N_T1_MRCC_34, N3 IO_L12P_T1_MRCC_34, N4 IO_L14N_T2_SRCC_34, N5 VCCO_34, N6 IO_L5N_T0_34, N7 IO_L5P_T0_34, N8 IO_0_34, P1 IO_L15N_T2_DQS_34, P2 VCCO_34, P3 IO_L13N_T2_MRCC_34, P4 IO_L14P_T2_SRCC_34, P5 IO_L19N_T3_VREF_34, P6 IO_L19P_T3_34, P8 IO_L22N_T3_34, R1 IO_L15P_T2_DQS_34, R2 IO_L17N_T2_34, R3 IO_L13P_T2_MRCC_34, R5 IO_L20N_T3_34, R6 IO_L23N_T3_34, R7 IO_L23P_T3_34, R8 IO_L22P_T3_34, T2 IO_L17P_T2_34, T3 IO_L16N_T2_34, T4 IO_L16P_T2_34, T5 IO_L20P_T3_34, T6 VCCO_34, T7 IO_L24N_T3_34, T8 IO_L24P_T3_34, U1 IO_L18N_T2_34, U2 IO_L18P_T2_34, U4 IO_25_34, U5 IO_L21N_T3_DQS_34, U6 IO_L21P_T3_DQS_34
part E pins: A7 MGTPTXN0_216, A9 MGTPTXN2_216, A11 MGTPRXN0_216, A13 MGTPRXN2_216, AA11 MGTREFCLK1P_213, AA13 MGTREFCLK0P_213, AB11 MGTREFCLK1N_213, AB13 MGTREFCLK0N_213, AC8 MGTPTXP2_213, AC10 MGTPTXP0_213, AC12 MGTPRXP0_213, AC14 MGTPRXP2_213, AD8 MGTPTXN2_213, AD10 MGTPTXN0_213, AD12 MGTPRXN0_213, AD14 MGTPRXN2_213, AE7 MGTPTXP3_213, AE9 MGTPTXP1_213, AE11 MGTPRXP3_213, AE13 MGTPRXP1_213, AF7 MGTPTXN3_213, AF9 MGTPTXN1_213, AF11 MGTPRXN3_213, AF13 MGTPRXN1_213, B7 MGTPTXP0_216, B9 MGTPTXP2_216, B11 MGTPRXP0_216, B13 MGTPRXP2_216, C8 MGTPTXN1_216, C10 MGTPTXN3_216, C12 MGTPRXN3_216, C14 MGTPRXN1_216, D8 MGTPTXP1_216, D10 MGTPTXP3_216, D12 MGTPRXP3_216, D14 MGTPRXP1_216, E11 MGTREFCLK0N_216, E13 MGTREFCLK1N_216, F11 MGTREFCLK0P_216, F13 MGTREFCLK1P_216
part F pins: A15 MGTRREF_216, AA10 MGTAVCC_G10, AA12 MGTAVCC_G10, AC9 MGTAVCC_G10, AC11 MGTAVCC_G10, AC13 MGTAVCC_G10, AD7 MGTAVTT_G10, AD15 MGTAVTT_G10, AE8 MGTAVTT_G10, AE10 MGTAVTT_G10, AE12 MGTAVTT_G10, AE14 MGTAVTT_G10, AF15 MGTRREF_213, B8 MGTAVTT_G11, B10 MGTAVTT_G11, B12 MGTAVTT_G11, B14 MGTAVTT_G11, C7 MGTAVTT_G11, C15 MGTAVTT_G11, D9 MGTAVCC_G11, D11 MGTAVCC_G11, D13 MGTAVCC_G11, F10 MGTAVCC_G11, F12 MGTAVCC_G11
part G pins: AB7 M0_0, AB15 CFGBVS_0, AE16 PROGRAM_B_0, H10 TDI_0, H11 TMS_0, H12 TCK_0, H13 CCLK_0, J10 TDO_0, N11 VREFN_0, N12 VP_0, P11 VN_0, P12 VREFP_0, R11 DXN_0, R12 DXP_0, V11 INIT_B_0, W9 M2_0, W10 DONE_0, W11 VCCO_0, Y9 M1_0, Y14 VCCO_0
part H pins: A6 GND, A8 GND, A10 GND, A12 GND, A14 GND, A16 GND, A26 GND, AA6 GND, AA9 GND, AA14 GND, AA16 GND, AA26 GND, AB3 GND, AB8 GND, AB9 GND, AB10 GND, AB12 GND, AB14 GND, AB23 GND, AC7 GND, AC15 GND, AC20 GND, AD6 GND, AD9 GND, AD11 GND, AD13 GND, AD16 GND, AE4 GND, AE6 GND, AE15 GND, AE24 GND, AF1 GND, AF6 GND, AF8 GND, AF10 GND, AF12 GND, AF14 GND, AF16 GND, AF21 GND, B3 GND, B6 GND, B15 GND, B16 GND, B23 GND, C6 GND, C9 GND, C11 GND, C13 GND, C16 GND, C20 GND, D7 GND, D15 GND, D17 GND, E4 GND, E7 GND, E8 GND, E9 GND, E10 GND, E12 GND, E14 GND, E15 GND, E24 GND, F1 GND, F9 GND, F14 GND, F21 GND, G10 GND, G11 GND, G12 GND, G13 GND, G14 VCCBATT_0, G18 GND, H5 GND, H25 GND, J2 GND, J9 VCCAUX, J11 VCCINT, J12 GND, J13 VCCINT, J22 GND, K9 GND, K10 VCCINT, K11 GND, K12 VCCINT, K13 GND, K19 GND, L6 GND, L9 VCCAUX, L10 GND, L11 VCCINT, L12 GND, L13 VCCINT, L16 GND, L26 GND, M3 GND, M9 GND, M10 VCCINT, M11 GNDADC_0, M12 VCCADC_0, M13 GND, M23 GND, N9 VCCAUX, N10 GND, N13 VCCBRAM, N20 GND, P7 GND, P9 GND, P10 VCCINT, P13 GND, P17 GND, R4 GND, R9 VCCAUX, R10 GND, R13 VCCBRAM, R24 GND, T1 GND, T9 GND, T10 VCCINT, T11 GND, T12 VCCINT, T13 GND, T21 GND, U8 GND, U9 VCCAUX, U10 GND, U11 VCCINT, U12 GND, U13 VCCBRAM, U18 GND, V5 GND, V10 VCCINT, V12 VCCINT, V13 GND, V15 GND, V25 GND, W2 GND, W12 GND, W13 VCCBRAM, W22 GND, Y10 GND, Y11 GND, Y12 GND, Y13 GND, Y19 GND

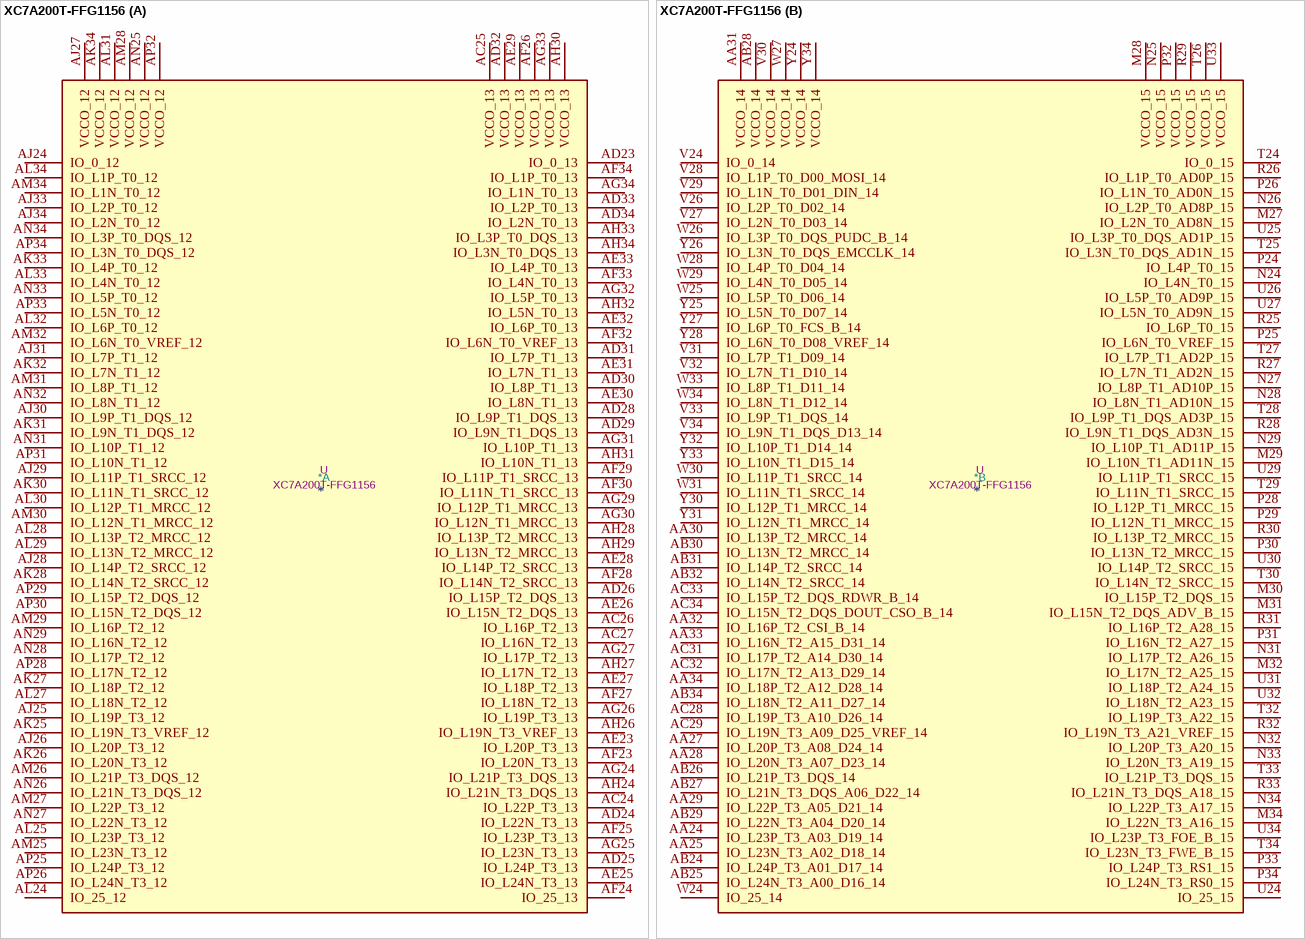
[diagram p42: symbol XC7A200T-FFG1156]

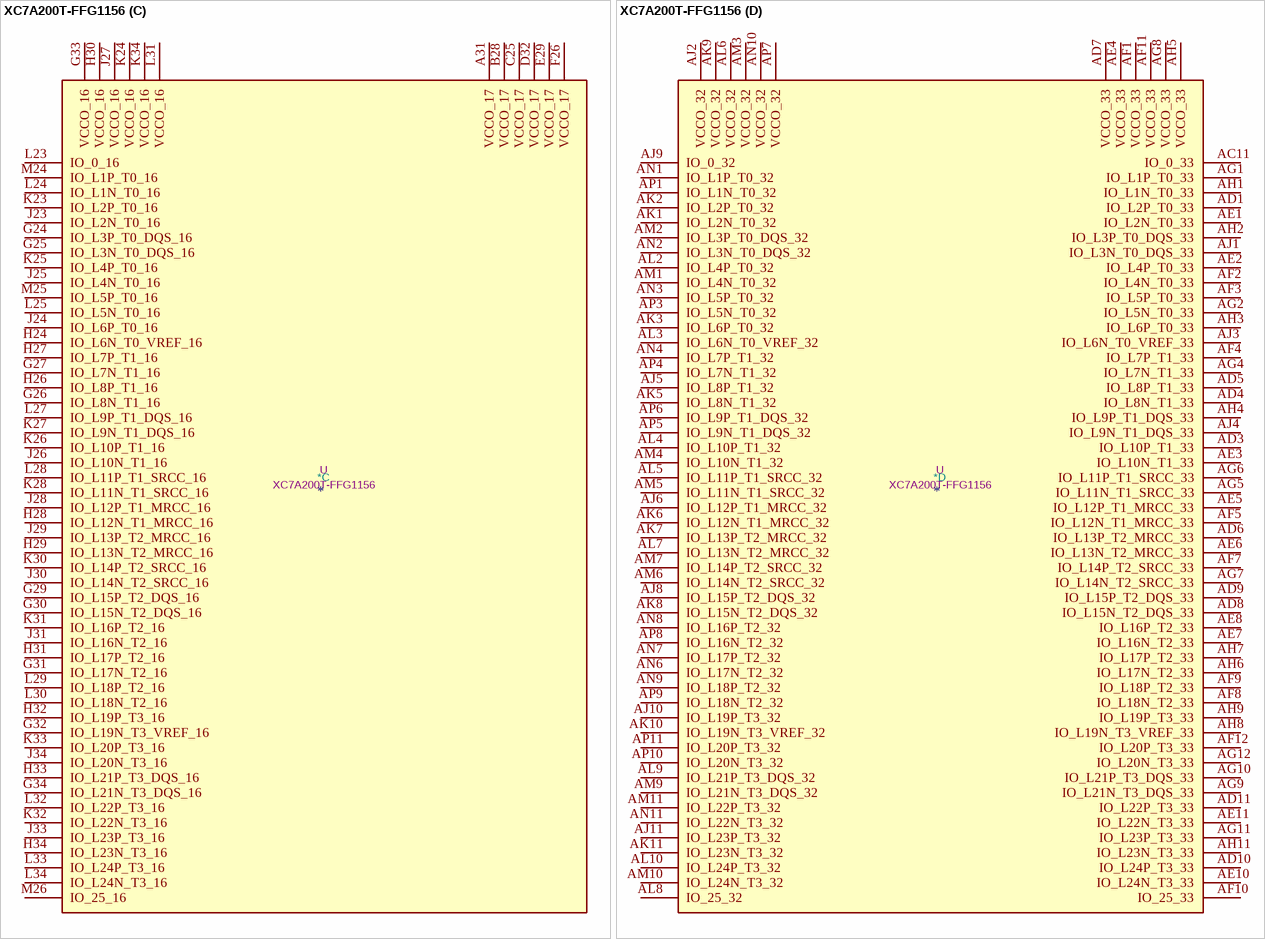
[diagram p43: symbol XC7A200T-FFG1156]

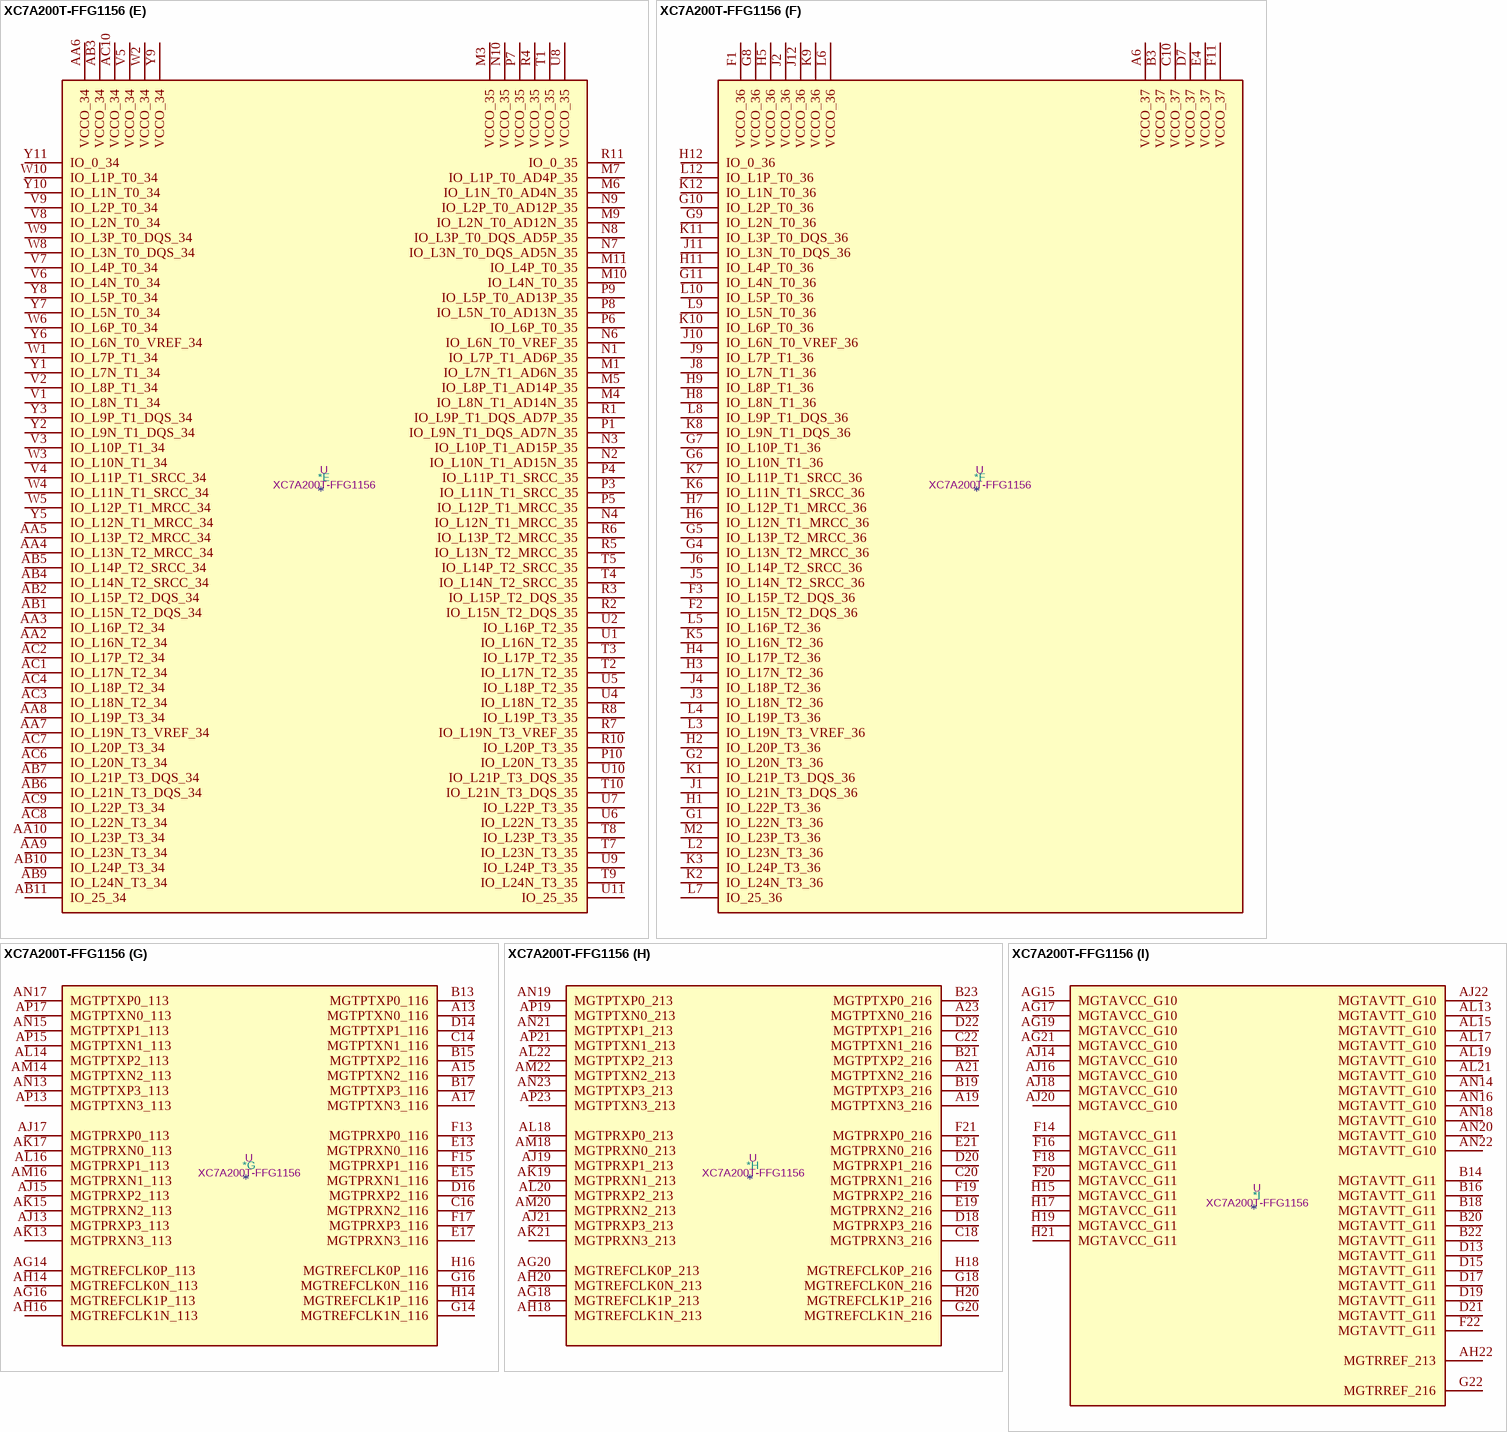
[diagram p44: symbol XC7A200T-FFG1156]

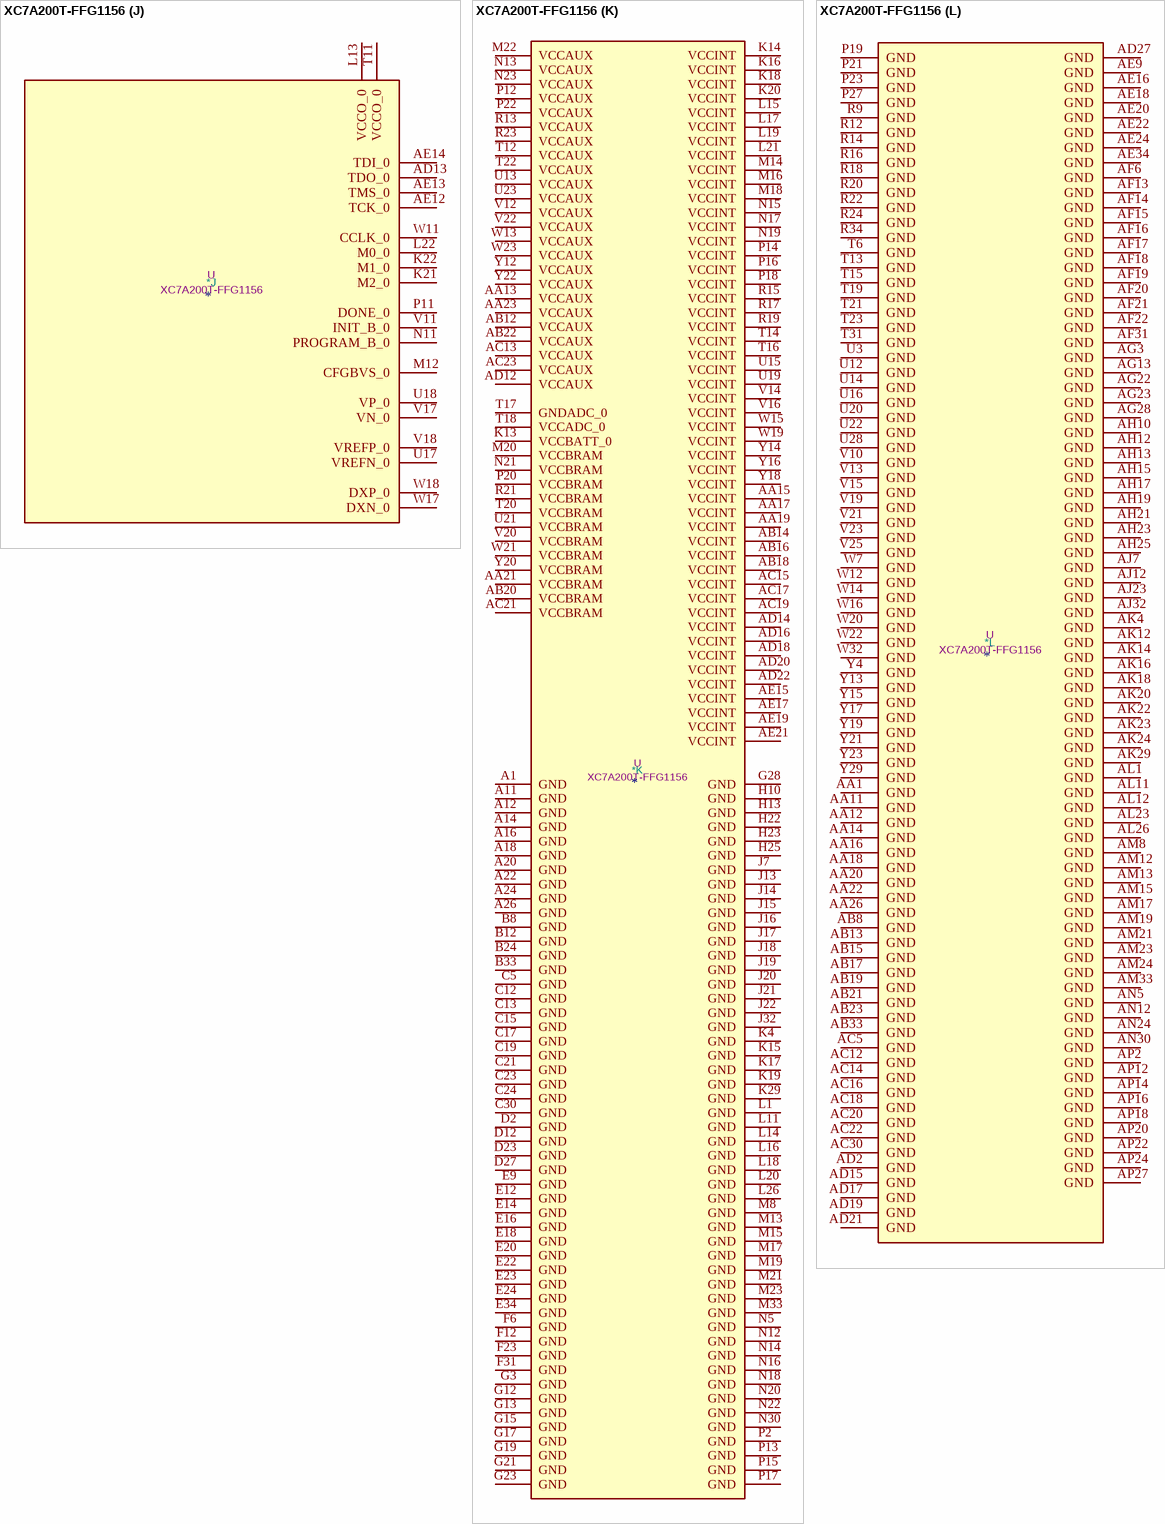
[diagram p45: symbol XC7A200T-FFG1156]

## XC7A200T-FFG1156
designator *  value XC7A200T-FFG1156  Reference: U
Artix 7 T 200 XC7A200T-FFG1156; ki_keywords: FPGA; Description_: Artix 7 T 200 XC7A200T-FFG1156
part A pins: AC24 IO_L22P_T3_13, AC25 VCCO_13, AC26 IO_L16P_T2_13, AC27 IO_L16N_T2_13, AD23 IO_0_13, AD24 IO_L22N_T3_13, AD25 IO_L24P_T3_13, AD26 IO_L15P_T2_DQS_13, AD28 IO_L9P_T1_DQS_13, AD29 IO_L9N_T1_DQS_13, AD30 IO_L8P_T1_13, AD31 IO_L7P_T1_13, AD32 VCCO_13, AD33 IO_L2P_T0_13, AD34 IO_L2N_T0_13, AE23 IO_L20P_T3_13, AE25 IO_L24N_T3_13, AE26 IO_L15N_T2_DQS_13, AE27 IO_L18P_T2_13, AE28 IO_L14P_T2_SRCC_13, AE29 VCCO_13, AE30 IO_L8N_T1_13, AE31 IO_L7N_T1_13, AE32 IO_L6P_T0_13, AE33 IO_L4P_T0_13, AF23 IO_L20N_T3_13, AF24 IO_25_13, AF25 IO_L23P_T3_13, AF26 VCCO_13, AF27 IO_L18N_T2_13, AF28 IO_L14N_T2_SRCC_13, AF29 IO_L11P_T1_SRCC_13, AF30 IO_L11N_T1_SRCC_13, AF32 IO_L6N_T0_VREF_13, AF33 IO_L4N_T0_13, AF34 IO_L1P_T0_13, AG24 IO_L21P_T3_DQS_13, AG25 IO_L23N_T3_13, AG26 IO_L19P_T3_13, AG27 IO_L17P_T2_13, AG29 IO_L12P_T1_MRCC_13, AG30 IO_L12N_T1_MRCC_13, AG31 IO_L10P_T1_13, AG32 IO_L5P_T0_13, AG33 VCCO_13, AG34 IO_L1N_T0_13, AH24 IO_L21N_T3_DQS_13, AH26 IO_L19N_T3_VREF_13, AH27 IO_L17N_T2_13, AH28 IO_L13P_T2_MRCC_13, AH29 IO_L13N_T2_MRCC_13, AH30 VCCO_13, AH31 IO_L10N_T1_13, AH32 IO_L5N_T0_13, AH33 IO_L3P_T0_DQS_13, AH34 IO_L3N_T0_DQS_13, AJ24 IO_0_12, AJ25 IO_L19P_T3_12, AJ26 IO_L20P_T3_12, AJ27 VCCO_12, AJ28 IO_L14P_T2_SRCC_12, AJ29 IO_L11P_T1_SRCC_12, AJ30 IO_L9P_T1_DQS_12, AJ31 IO_L7P_T1_12, AJ33 IO_L2P_T0_12, AJ34 IO_L2N_T0_12, AK25 IO_L19N_T3_VREF_12, AK26 IO_L20N_T3_12, AK27 IO_L18P_T2_12, AK28 IO_L14N_T2_SRCC_12, AK30 IO_L11N_T1_SRCC_12, AK31 IO_L9N_T1_DQS_12, AK32 IO_L7N_T1_12, AK33 IO_L4P_T0_12, AK34 VCCO_12, AL24 IO_25_12, AL25 IO_L23P_T3_12, AL27 IO_L18N_T2_12, AL28 IO_L13P_T2_MRCC_12, AL29 IO_L13N_T2_MRCC_12, AL30 IO_L12P_T1_MRCC_12, AL31 VCCO_12, AL32 IO_L6P_T0_12, AL33 IO_L4N_T0_12, AL34 IO_L1P_T0_12, AM25 IO_L23N_T3_12, AM26 IO_L21P_T3_DQS_12, AM27 IO_L22P_T3_12, AM28 VCCO_12, AM29 IO_L16P_T2_12, AM30 IO_L12N_T1_MRCC_12, AM31 IO_L8P_T1_12, AM32 IO_L6N_T0_VREF_12, AM34 IO_L1N_T0_12, AN25 VCCO_12, AN26 IO_L21N_T3_DQS_12, AN27 IO_L22N_T3_12, AN28 IO_L17P_T2_12, AN29 IO_L16N_T2_12, AN31 IO_L10P_T1_12, AN32 IO_L8N_T1_12, AN33 IO_L5P_T0_12, AN34 IO_L3P_T0_DQS_12, AP25 IO_L24P_T3_12, AP26 IO_L24N_T3_12, AP28 IO_L17N_T2_12, AP29 IO_L15P_T2_DQS_12, AP30 IO_L15N_T2_DQS_12, AP31 IO_L10N_T1_12, AP32 VCCO_12, AP33 IO_L5N_T0_12, AP34 IO_L3N_T0_DQS_12
part B pins: AA24 IO_L23P_T3_A03_D19_14, AA25 IO_L23N_T3_A02_D18_14, AA27 IO_L20P_T3_A08_D24_14, AA28 IO_L20N_T3_A07_D23_14, AA29 IO_L22P_T3_A05_D21_14, AA30 IO_L13P_T2_MRCC_14, AA31 VCCO_14, AA32 IO_L16P_T2_CSI_B_14, AA33 IO_L16N_T2_A15_D31_14, AA34 IO_L18P_T2_A12_D28_14, AB24 IO_L24P_T3_A01_D17_14, AB25 IO_L24N_T3_A00_D16_14, AB26 IO_L21P_T3_DQS_14, AB27 IO_L21N_T3_DQS_A06_D22_14, AB28 VCCO_14, AB29 IO_L22N_T3_A04_D20_14, AB30 IO_L13N_T2_MRCC_14, AB31 IO_L14P_T2_SRCC_14, AB32 IO_L14N_T2_SRCC_14, AB34 IO_L18N_T2_A11_D27_14, AC28 IO_L19P_T3_A10_D26_14, AC29 IO_L19N_T3_A09_D25_VREF_14, AC31 IO_L17P_T2_A14_D30_14, AC32 IO_L17N_T2_A13_D29_14, AC33 IO_L15P_T2_DQS_RDWR_B_14, AC34 IO_L15N_T2_DQS_DOUT_CSO_B_14, M27 IO_L2N_T0_AD8N_15, M28 VCCO_15, M29 IO_L10N_T1_AD11N_15, M30 IO_L15P_T2_DQS_15, M31 IO_L15N_T2_DQS_ADV_B_15, M32 IO_L17N_T2_A25_15, M34 IO_L22N_T3_A16_15, N24 IO_L4N_T0_15, N25 VCCO_15, N26 IO_L2P_T0_AD8P_15, N27 IO_L8P_T1_AD10P_15, N28 IO_L8N_T1_AD10N_15, N29 IO_L10P_T1_AD11P_15, N31 IO_L17P_T2_A26_15, N32 IO_L20P_T3_A20_15, N33 IO_L20N_T3_A19_15, N34 IO_L22P_T3_A17_15, P24 IO_L4P_T0_15, P25 IO_L6N_T0_VREF_15, P26 IO_L1N_T0_AD0N_15, P28 IO_L12P_T1_MRCC_15, P29 IO_L12N_T1_MRCC_15, P30 IO_L13N_T2_MRCC_15, P31 IO_L16N_T2_A27_15, P32 VCCO_15, P33 IO_L24P_T3_RS1_15, P34 IO_L24N_T3_RS0_15, R25 IO_L6P_T0_15, R26 IO_L1P_T0_AD0P_15, R27 IO_L7N_T1_AD2N_15, R28 IO_L9N_T1_DQS_AD3N_15, R29 VCCO_15, R30 IO_L13P_T2_MRCC_15, R31 IO_L16P_T2_A28_15, R32 IO_L19N_T3_A21_VREF_15, R33 IO_L21N_T3_DQS_A18_15, T24 IO_0_15, T25 IO_L3N_T0_DQS_AD1N_15, T26 VCCO_15, T27 IO_L7P_T1_AD2P_15, T28 IO_L9P_T1_DQS_AD3P_15, T29 IO_L11N_T1_SRCC_15, T30 IO_L14N_T2_SRCC_15, T32 IO_L19P_T3_A22_15, T33 IO_L21P_T3_DQS_15, T34 IO_L23N_T3_FWE_B_15, U24 IO_25_15, U25 IO_L3P_T0_DQS_AD1P_15, U26 IO_L5P_T0_AD9P_15, U27 IO_L5N_T0_AD9N_15, U29 IO_L11P_T1_SRCC_15, U30 IO_L14P_T2_SRCC_15, U31 IO_L18P_T2_A24_15, U32 IO_L18N_T2_A23_15, U33 VCCO_15, U34 IO_L23P_T3_FOE_B_15, V24 IO_0_14, V26 IO_L2P_T0_D02_14, V27 IO_L2N_T0_D03_14, V28 IO_L1P_T0_D00_MOSI_14, V29 IO_L1N_T0_D01_DIN_14, V30 VCCO_14, V31 IO_L7P_T1_D09_14, V32 IO_L7N_T1_D10_14, V33 IO_L9P_T1_DQS_14, V34 IO_L9N_T1_DQS_D13_14, W24 IO_25_14, W25 IO_L5P_T0_D06_14, W26 IO_L3P_T0_DQS_PUDC_B_14, W27 VCCO_14, W28 IO_L4P_T0_D04_14, W29 IO_L4N_T0_D05_14, W30 IO_L11P_T1_SRCC_14, W31 IO_L11N_T1_SRCC_14, W33 IO_L8P_T1_D11_14, W34 IO_L8N_T1_D12_14, Y24 VCCO_14, Y25 IO_L5N_T0_D07_14, Y26 IO_L3N_T0_DQS_EMCCLK_14, Y27 IO_L6P_T0_FCS_B_14, Y28 IO_L6N_T0_D08_VREF_14, Y30 IO_L12P_T1_MRCC_14, Y31 IO_L12N_T1_MRCC_14, Y32 IO_L10P_T1_D14_14, Y33 IO_L10N_T1_D15_14, Y34 VCCO_14
part C pins: A31 VCCO_17, B28 VCCO_17, C25 VCCO_17, D32 VCCO_17, E29 VCCO_17, F26 VCCO_17, G24 IO_L3P_T0_DQS_16, G25 IO_L3N_T0_DQS_16, G26 IO_L8N_T1_16, G27 IO_L7N_T1_16, G29 IO_L15P_T2_DQS_16, G30 IO_L15N_T2_DQS_16, G31 IO_L17N_T2_16, G32 IO_L19N_T3_VREF_16, G33 VCCO_16, G34 IO_L21N_T3_DQS_16, H24 IO_L6N_T0_VREF_16, H26 IO_L8P_T1_16, H27 IO_L7P_T1_16, H28 IO_L12N_T1_MRCC_16, H29 IO_L13N_T2_MRCC_16, H30 VCCO_16, H31 IO_L17P_T2_16, H32 IO_L19P_T3_16, H33 IO_L21P_T3_DQS_16, H34 IO_L23N_T3_16, J23 IO_L2N_T0_16, J24 IO_L6P_T0_16, J25 IO_L4N_T0_16, J26 IO_L10N_T1_16, J27 VCCO_16, J28 IO_L12P_T1_MRCC_16, J29 IO_L13P_T2_MRCC_16, J30 IO_L14N_T2_SRCC_16, J31 IO_L16N_T2_16, J33 IO_L23P_T3_16, J34 IO_L20N_T3_16, K23 IO_L2P_T0_16, K24 VCCO_16, K25 IO_L4P_T0_16, K26 IO_L10P_T1_16, K27 IO_L9N_T1_DQS_16, K28 IO_L11N_T1_SRCC_16, K30 IO_L14P_T2_SRCC_16, K31 IO_L16P_T2_16, K32 IO_L22N_T3_16, K33 IO_L20P_T3_16, K34 VCCO_16, L23 IO_0_16, L24 IO_L1N_T0_16, L25 IO_L5N_T0_16, L27 IO_L9P_T1_DQS_16, L28 IO_L11P_T1_SRCC_16, L29 IO_L18P_T2_16, L30 IO_L18N_T2_16, L31 VCCO_16, L32 IO_L22P_T3_16, L33 IO_L24P_T3_16, L34 IO_L24N_T3_16, M24 IO_L1P_T0_16, M25 IO_L5P_T0_16, M26 IO_25_16
part D pins: AC11 IO_0_33, AD1 IO_L2P_T0_33, AD3 IO_L10P_T1_33, AD4 IO_L8N_T1_33, AD5 IO_L8P_T1_33, AD6 IO_L13P_T2_MRCC_33, AD7 VCCO_33, AD8 IO_L15N_T2_DQS_33, AD9 IO_L15P_T2_DQS_33, AD10 IO_L24P_T3_33, AD11 IO_L22P_T3_33, AE1 IO_L2N_T0_33, AE2 IO_L4P_T0_33, AE3 IO_L10N_T1_33, AE4 VCCO_33, AE5 IO_L12P_T1_MRCC_33, AE6 IO_L13N_T2_MRCC_33, AE7 IO_L16N_T2_33, AE8 IO_L16P_T2_33, AE10 IO_L24N_T3_33, AE11 IO_L22N_T3_33, AF1 VCCO_33, AF2 IO_L4N_T0_33, AF3 IO_L5P_T0_33, AF4 IO_L7P_T1_33, AF5 IO_L12N_T1_MRCC_33, AF7 IO_L14P_T2_SRCC_33, AF8 IO_L18N_T2_33, AF9 IO_L18P_T2_33, AF10 IO_25_33, AF11 VCCO_33, AF12 IO_L20P_T3_33, AG1 IO_L1P_T0_33, AG2 IO_L5N_T0_33, AG4 IO_L7N_T1_33, AG5 IO_L11N_T1_SRCC_33, AG6 IO_L11P_T1_SRCC_33, AG7 IO_L14N_T2_SRCC_33, AG8 VCCO_33, AG9 IO_L21N_T3_DQS_33, AG10 IO_L21P_T3_DQS_33, AG11 IO_L23P_T3_33, AG12 IO_L20N_T3_33, AH1 IO_L1N_T0_33, AH2 IO_L3P_T0_DQS_33, AH3 IO_L6P_T0_33, AH4 IO_L9P_T1_DQS_33, AH5 VCCO_33, AH6 IO_L17N_T2_33, AH7 IO_L17P_T2_33, AH8 IO_L19N_T3_VREF_33, AH9 IO_L19P_T3_33, AH11 IO_L23N_T3_33, AJ1 IO_L3N_T0_DQS_33, AJ2 VCCO_32, AJ3 IO_L6N_T0_VREF_33, AJ4 IO_L9N_T1_DQS_33, AJ5 IO_L8P_T1_32, AJ6 IO_L12P_T1_MRCC_32, AJ8 IO_L15P_T2_DQS_32, AJ9 IO_0_32, AJ10 IO_L19P_T3_32, AJ11 IO_L23P_T3_32, AK1 IO_L2N_T0_32, AK2 IO_L2P_T0_32, AK3 IO_L6P_T0_32, AK5 IO_L8N_T1_32, AK6 IO_L12N_T1_MRCC_32, AK7 IO_L13P_T2_MRCC_32, AK8 IO_L15N_T2_DQS_32, AK9 VCCO_32, AK10 IO_L19N_T3_VREF_32, AK11 IO_L23N_T3_32, AL2 IO_L4P_T0_32, AL3 IO_L6N_T0_VREF_32, AL4 IO_L10P_T1_32, AL5 IO_L11P_T1_SRCC_32, AL6 VCCO_32, AL7 IO_L13N_T2_MRCC_32, AL8 IO_25_32, AL9 IO_L21P_T3_DQS_32, AL10 IO_L24P_T3_32, AM1 IO_L4N_T0_32, AM2 IO_L3P_T0_DQS_32, AM3 VCCO_32, AM4 IO_L10N_T1_32, AM5 IO_L11N_T1_SRCC_32, AM6 IO_L14N_T2_SRCC_32, AM7 IO_L14P_T2_SRCC_32, AM9 IO_L21N_T3_DQS_32, AM10 IO_L24N_T3_32, AM11 IO_L22P_T3_32, AN1 IO_L1P_T0_32, AN2 IO_L3N_T0_DQS_32, AN3 IO_L5P_T0_32, AN4 IO_L7P_T1_32, AN6 IO_L17N_T2_32, AN7 IO_L17P_T2_32, AN8 IO_L16P_T2_32, AN9 IO_L18P_T2_32, AN10 VCCO_32, AN11 IO_L22N_T3_32, AP1 IO_L1N_T0_32, AP3 IO_L5N_T0_32, AP4 IO_L7N_T1_32, AP5 IO_L9N_T1_DQS_32, AP6 IO_L9P_T1_DQS_32, AP7 VCCO_32, AP8 IO_L16N_T2_32, AP9 IO_L18N_T2_32, AP10 IO_L20N_T3_32, AP11 IO_L20P_T3_32
part E pins: AA2 IO_L16N_T2_34, AA3 IO_L16P_T2_34, AA4 IO_L13N_T2_MRCC_34, AA5 IO_L13P_T2_MRCC_34, AA6 VCCO_34, AA7 IO_L19N_T3_VREF_34, AA8 IO_L19P_T3_34, AA9 IO_L23N_T3_34, AA10 IO_L23P_T3_34, AB1 IO_L15N_T2_DQS_34, AB2 IO_L15P_T2_DQS_34, AB3 VCCO_34, AB4 IO_L14N_T2_SRCC_34, AB5 IO_L14P_T2_SRCC_34, AB6 IO_L21N_T3_DQS_34, AB7 IO_L21P_T3_DQS_34, AB9 IO_L24N_T3_34, AB10 IO_L24P_T3_34, AB11 IO_25_34, AC1 IO_L17N_T2_34, AC2 IO_L17P_T2_34, AC3 IO_L18N_T2_34, AC4 IO_L18P_T2_34, AC6 IO_L20N_T3_34, AC7 IO_L20P_T3_34, AC8 IO_L22N_T3_34, AC9 IO_L22P_T3_34, AC10 VCCO_34, M1 IO_L7N_T1_AD6N_35, M3 VCCO_35, M4 IO_L8N_T1_AD14N_35, M5 IO_L8P_T1_AD14P_35, M6 IO_L1N_T0_AD4N_35, M7 IO_L1P_T0_AD4P_35, M9 IO_L2N_T0_AD12N_35, M10 IO_L4N_T0_35, M11 IO_L4P_T0_35, N1 IO_L7P_T1_AD6P_35, N2 IO_L10N_T1_AD15N_35, N3 IO_L10P_T1_AD15P_35, N4 IO_L12N_T1_MRCC_35, N6 IO_L6N_T0_VREF_35, N7 IO_L3N_T0_DQS_AD5N_35, N8 IO_L3P_T0_DQS_AD5P_35, N9 IO_L2P_T0_AD12P_35, N10 VCCO_35, P1 IO_L9N_T1_DQS_AD7N_35, P3 IO_L11N_T1_SRCC_35, P4 IO_L11P_T1_SRCC_35, P5 IO_L12P_T1_MRCC_35, P6 IO_L6P_T0_35, P7 VCCO_35, P8 IO_L5N_T0_AD13N_35, P9 IO_L5P_T0_AD13P_35, P10 IO_L20N_T3_35, R1 IO_L9P_T1_DQS_AD7P_35, R2 IO_L15N_T2_DQS_35, R3 IO_L15P_T2_DQS_35, R4 VCCO_35, R5 IO_L13N_T2_MRCC_35, R6 IO_L13P_T2_MRCC_35, R7 IO_L19N_T3_VREF_35, R8 IO_L19P_T3_35, R10 IO_L20P_T3_35, R11 IO_0_35, T1 VCCO_35, T2 IO_L17N_T2_35, T3 IO_L17P_T2_35, T4 IO_L14N_T2_SRCC_35, T5 IO_L14P_T2_SRCC_35, T7 IO_L23N_T3_35, T8 IO_L23P_T3_35, T9 IO_L24N_T3_35, T10 IO_L21N_T3_DQS_35, U1 IO_L16N_T2_35, U2 IO_L16P_T2_35, U4 IO_L18N_T2_35, U5 IO_L18P_T2_35, U6 IO_L22N_T3_35, U7 IO_L22P_T3_35, U8 VCCO_35, U9 IO_L24P_T3_35, U10 IO_L21P_T3_DQS_35, U11 IO_25_35, V1 IO_L8N_T1_34, V2 IO_L8P_T1_34, V3 IO_L10P_T1_34, V4 IO_L11P_T1_SRCC_34, V5 VCCO_34, V6 IO_L4N_T0_34, V7 IO_L4P_T0_34, V8 IO_L2N_T0_34, V9 IO_L2P_T0_34, W1 IO_L7P_T1_34, W2 VCCO_34, W3 IO_L10N_T1_34, W4 IO_L11N_T1_SRCC_34, W5 IO_L12P_T1_MRCC_34, W6 IO_L6P_T0_34, W8 IO_L3N_T0_DQS_34, W9 IO_L3P_T0_DQS_34, W10 IO_L1P_T0_34, Y1 IO_L7N_T1_34, Y2 IO_L9N_T1_DQS_34, Y3 IO_L9P_T1_DQS_34, Y5 IO_L12N_T1_MRCC_34, Y6 IO_L6N_T0_VREF_34, Y7 IO_L5N_T0_34, Y8 IO_L5P_T0_34, Y9 VCCO_34, Y10 IO_L1N_T0_34, Y11 IO_0_34
part F pins: A6 VCCO_37, B3 VCCO_37, C10 VCCO_37, D7 VCCO_37, E4 VCCO_37, F1 VCCO_36, F2 IO_L15N_T2_DQS_36, F3 IO_L15P_T2_DQS_36, F11 VCCO_37, G1 IO_L22N_T3_36, G2 IO_L20N_T3_36, G4 IO_L13N_T2_MRCC_36, G5 IO_L13P_T2_MRCC_36, G6 IO_L10N_T1_36, G7 IO_L10P_T1_36, G8 VCCO_36, G9 IO_L2N_T0_36, G10 IO_L2P_T0_36, G11 IO_L4N_T0_36, H1 IO_L22P_T3_36, H2 IO_L20P_T3_36, H3 IO_L17N_T2_36, H4 IO_L17P_T2_36, H5 VCCO_36, H6 IO_L12N_T1_MRCC_36, H7 IO_L12P_T1_MRCC_36, H8 IO_L8N_T1_36, H9 IO_L8P_T1_36, H11 IO_L4P_T0_36, H12 IO_0_36, J1 IO_L21N_T3_DQS_36, J2 VCCO_36, J3 IO_L18N_T2_36, J4 IO_L18P_T2_36, J5 IO_L14N_T2_SRCC_36, J6 IO_L14P_T2_SRCC_36, J8 IO_L7N_T1_36, J9 IO_L7P_T1_36, J10 IO_L6N_T0_VREF_36, J11 IO_L3N_T0_DQS_36, J12 VCCO_36, K1 IO_L21P_T3_DQS_36, K2 IO_L24N_T3_36, K3 IO_L24P_T3_36, K5 IO_L16N_T2_36, K6 IO_L11N_T1_SRCC_36, K7 IO_L11P_T1_SRCC_36, K8 IO_L9N_T1_DQS_36, K9 VCCO_36, K10 IO_L6P_T0_36, K11 IO_L3P_T0_DQS_36, K12 IO_L1N_T0_36, L2 IO_L23N_T3_36, L3 IO_L19N_T3_VREF_36, L4 IO_L19P_T3_36, L5 IO_L16P_T2_36, L6 VCCO_36, L7 IO_25_36, L8 IO_L9P_T1_DQS_36, L9 IO_L5N_T0_36, L10 IO_L5P_T0_36, L12 IO_L1P_T0_36, M2 IO_L23P_T3_36
part G pins: A13 MGTPTXN0_116, A15 MGTPTXN2_116, A17 MGTPTXN3_116, AG14 MGTREFCLK0P_113, AG16 MGTREFCLK1P_113, AH14 MGTREFCLK0N_113, AH16 MGTREFCLK1N_113, AJ13 MGTPRXP3_113, AJ15 MGTPRXP2_113, AJ17 MGTPRXP0_113, AK13 MGTPRXN3_113, AK15 MGTPRXN2_113, AK17 MGTPRXN0_113, AL14 MGTPTXP2_113, AL16 MGTPRXP1_113, AM14 MGTPTXN2_113, AM16 MGTPRXN1_113, AN13 MGTPTXP3_113, AN15 MGTPTXP1_113, AN17 MGTPTXP0_113, AP13 MGTPTXN3_113, AP15 MGTPTXN1_113, AP17 MGTPTXN0_113, B13 MGTPTXP0_116, B15 MGTPTXP2_116, B17 MGTPTXP3_116, C14 MGTPTXN1_116, C16 MGTPRXN2_116, D14 MGTPTXP1_116, D16 MGTPRXP2_116, E13 MGTPRXN0_116, E15 MGTPRXN1_116, E17 MGTPRXN3_116, F13 MGTPRXP0_116, F15 MGTPRXP1_116, F17 MGTPRXP3_116, G14 MGTREFCLK1N_116, G16 MGTREFCLK0N_116, H14 MGTREFCLK1P_116, H16 MGTREFCLK0P_116
part H pins: A19 MGTPTXN3_216, A21 MGTPTXN2_216, A23 MGTPTXN0_216, AG18 MGTREFCLK1P_213, AG20 MGTREFCLK0P_213, AH18 MGTREFCLK1N_213, AH20 MGTREFCLK0N_213, AJ19 MGTPRXP1_213, AJ21 MGTPRXP3_213, AK19 MGTPRXN1_213, AK21 MGTPRXN3_213, AL18 MGTPRXP0_213, AL20 MGTPRXP2_213, AL22 MGTPTXP2_213, AM18 MGTPRXN0_213, AM20 MGTPRXN2_213, AM22 MGTPTXN2_213, AN19 MGTPTXP0_213, AN21 MGTPTXP1_213, AN23 MGTPTXP3_213, AP19 MGTPTXN0_213, AP21 MGTPTXN1_213, AP23 MGTPTXN3_213, B19 MGTPTXP3_216, B21 MGTPTXP2_216, B23 MGTPTXP0_216, C18 MGTPRXN3_216, C20 MGTPRXN1_216, C22 MGTPTXN1_216, D18 MGTPRXP3_216, D20 MGTPRXP1_216, D22 MGTPTXP1_216, E19 MGTPRXN2_216, E21 MGTPRXN0_216, F19 MGTPRXP2_216, F21 MGTPRXP0_216, G18 MGTREFCLK0N_216, G20 MGTREFCLK1N_216, H18 MGTREFCLK0P_216, H20 MGTREFCLK1P_216
part I pins: AG15 MGTAVCC_G10, AG17 MGTAVCC_G10, AG19 MGTAVCC_G10, AG21 MGTAVCC_G10, AH22 MGTRREF_213, AJ14 MGTAVCC_G10, AJ16 MGTAVCC_G10, AJ18 MGTAVCC_G10, AJ20 MGTAVCC_G10, AJ22 MGTAVTT_G10, AL13 MGTAVTT_G10, AL15 MGTAVTT_G10, AL17 MGTAVTT_G10, AL19 MGTAVTT_G10, AL21 MGTAVTT_G10, AN14 MGTAVTT_G10, AN16 MGTAVTT_G10, AN18 MGTAVTT_G10, AN20 MGTAVTT_G10, AN22 MGTAVTT_G10, B14 MGTAVTT_G11, B16 MGTAVTT_G11, B18 MGTAVTT_G11, B20 MGTAVTT_G11, B22 MGTAVTT_G11, D13 MGTAVTT_G11, D15 MGTAVTT_G11, D17 MGTAVTT_G11, D19 MGTAVTT_G11, D21 MGTAVTT_G11, F14 MGTAVCC_G11, F16 MGTAVCC_G11, F18 MGTAVCC_G11, F20 MGTAVCC_G11, F22 MGTAVTT_G11, G22 MGTRREF_216, H15 MGTAVCC_G11, H17 MGTAVCC_G11, H19 MGTAVCC_G11, H21 MGTAVCC_G11
part J pins: AD13 TDO_0, AE12 TCK_0, AE13 TMS_0, AE14 TDI_0, K21 M2_0, K22 M1_0, L13 VCCO_0, L22 M0_0, M12 CFGBVS_0, N11 PROGRAM_B_0, P11 DONE_0, T11 VCCO_0, U17 VREFN_0, U18 VP_0, V11 INIT_B_0, V17 VN_0, V18 VREFP_0, W11 CCLK_0, W17 DXN_0, W18 DXP_0
part K pins: A1 GND, A11 GND, A12 GND, A14 GND, A16 GND, A18 GND, A20 GND, A22 GND, A24 GND, A26 GND, AA13 VCCAUX, AA15 VCCINT, AA17 VCCINT, AA19 VCCINT, AA21 VCCBRAM, AA23 VCCAUX, AB12 VCCAUX, AB14 VCCINT, AB16 VCCINT, AB18 VCCINT, AB20 VCCBRAM, AB22 VCCAUX, AC13 VCCAUX, AC15 VCCINT, AC17 VCCINT, AC19 VCCINT, AC21 VCCBRAM, AC23 VCCAUX, AD12 VCCAUX, AD14 VCCINT, AD16 VCCINT, AD18 VCCINT, AD20 VCCINT, AD22 VCCINT, AE15 VCCINT, AE17 VCCINT, AE19 VCCINT, AE21 VCCINT, B8 GND, B12 GND, B24 GND, B33 GND, C5 GND, C12 GND, C13 GND, C15 GND, C17 GND, C19 GND, C21 GND, C23 GND, C24 GND, C30 GND, D2 GND, D12 GND, D23 GND, D27 GND, E9 GND, E12 GND, E14 GND, E16 GND, E18 GND, E20 GND, E22 GND, E23 GND, E24 GND, E34 GND, F6 GND, F12 GND, F23 GND, F31 GND, G3 GND, G12 GND, G13 GND, G15 GND, G17 GND, G19 GND, G21 GND, G23 GND, G28 GND, H10 GND, H13 GND, H22 GND, H23 GND, H25 GND, J7 GND, J13 GND, J14 GND, J15 GND, J16 GND, J17 GND, J18 GND, J19 GND, J20 GND, J21 GND, J22 GND, J32 GND, K4 GND, K13 VCCBATT_0, K14 VCCINT, K15 GND, K16 VCCINT, K17 GND, K18 VCCINT, K19 GND, K20 VCCINT, K29 GND, L1 GND, L11 GND, L14 GND, L15 VCCINT, L16 GND, L17 VCCINT, L18 GND, L19 VCCINT, L20 GND, L21 VCCINT, L26 GND, M8 GND, M13 GND, M14 VCCINT, M15 GND, M16 VCCINT, M17 GND, M18 VCCINT, M19 GND, M20 VCCBRAM, M21 GND, M22 VCCAUX, M23 GND, M33 GND, N5 GND, N12 GND, N13 VCCAUX, N14 GND, N15 VCCINT, N16 GND, N17 VCCINT, N18 GND, N19 VCCINT, N20 GND, N21 VCCBRAM, N22 GND, N23 VCCAUX, N30 GND, P2 GND, P12 VCCAUX, P13 GND, P14 VCCINT, P15 GND, P16 VCCINT, P17 GND, P18 VCCINT, P20 VCCBRAM, P22 VCCAUX, R13 VCCAUX, R15 VCCINT, R17 VCCINT, R19 VCCINT, R21 VCCBRAM, R23 VCCAUX, T12 VCCAUX, T14 VCCINT, T16 VCCINT, T17 GNDADC_0, T18 VCCADC_0, T20 VCCBRAM, T22 VCCAUX, U13 VCCAUX, U15 VCCINT, U19 VCCINT, U21 VCCBRAM, U23 VCCAUX, V12 VCCAUX, V14 VCCINT, V16 VCCINT, V20 VCCBRAM, V22 VCCAUX, W13 VCCAUX, W15 VCCINT, W19 VCCINT, W21 VCCBRAM, W23 VCCAUX, Y12 VCCAUX, Y14 VCCINT, Y16 VCCINT, Y18 VCCINT, Y20 VCCBRAM, Y22 VCCAUX
part L pins: AA1 GND, AA11 GND, AA12 GND, AA14 GND, AA16 GND, AA18 GND, AA20 GND, AA22 GND, AA26 GND, AB8 GND, AB13 GND, AB15 GND, AB17 GND, AB19 GND, AB21 GND, AB23 GND, AB33 GND, AC5 GND, AC12 GND, AC14 GND, AC16 GND, AC18 GND, AC20 GND, AC22 GND, AC30 GND, AD2 GND, AD15 GND, AD17 GND, AD19 GND, AD21 GND, AD27 GND, AE9 GND, AE16 GND, AE18 GND, AE20 GND, AE22 GND, AE24 GND, AE34 GND, AF6 GND, AF13 GND, AF14 GND, AF15 GND, AF16 GND, AF17 GND, AF18 GND, AF19 GND, AF20 GND, AF21 GND, AF22 GND, AF31 GND, AG3 GND, AG13 GND, AG22 GND, AG23 GND, AG28 GND, AH10 GND, AH12 GND, AH13 GND, AH15 GND, AH17 GND, AH19 GND, AH21 GND, AH23 GND, AH25 GND, AJ7 GND, AJ12 GND, AJ23 GND, AJ32 GND, AK4 GND, AK12 GND, AK14 GND, AK16 GND, AK18 GND, AK20 GND, AK22 GND, AK23 GND, AK24 GND, AK29 GND, AL1 GND, AL11 GND, AL12 GND, AL23 GND, AL26 GND, AM8 GND, AM12 GND, AM13 GND, AM15 GND, AM17 GND, AM19 GND, AM21 GND, AM23 GND, AM24 GND, AM33 GND, AN5 GND, AN12 GND, AN24 GND, AN30 GND, AP2 GND, AP12 GND, AP14 GND, AP16 GND, AP18 GND, AP20 GND, AP22 GND, AP24 GND, AP27 GND, P19 GND, P21 GND, P23 GND, P27 GND, R9 GND, R12 GND, R14 GND, R16 GND, R18 GND, R20 GND, R22 GND, R24 GND, R34 GND, T6 GND, T13 GND, T15 GND, T19 GND, T21 GND, T23 GND, T31 GND, U3 GND, U12 GND, U14 GND, U16 GND, U20 GND, U22 GND, U28 GND, V10 GND, V13 GND, V15 GND, V19 GND, V21 GND, V23 GND, V25 GND, W7 GND, W12 GND, W14 GND, W16 GND, W20 GND, W22 GND, W32 GND, Y4 GND, Y13 GND, Y15 GND, Y17 GND, Y19 GND, Y21 GND, Y23 GND, Y29 GND

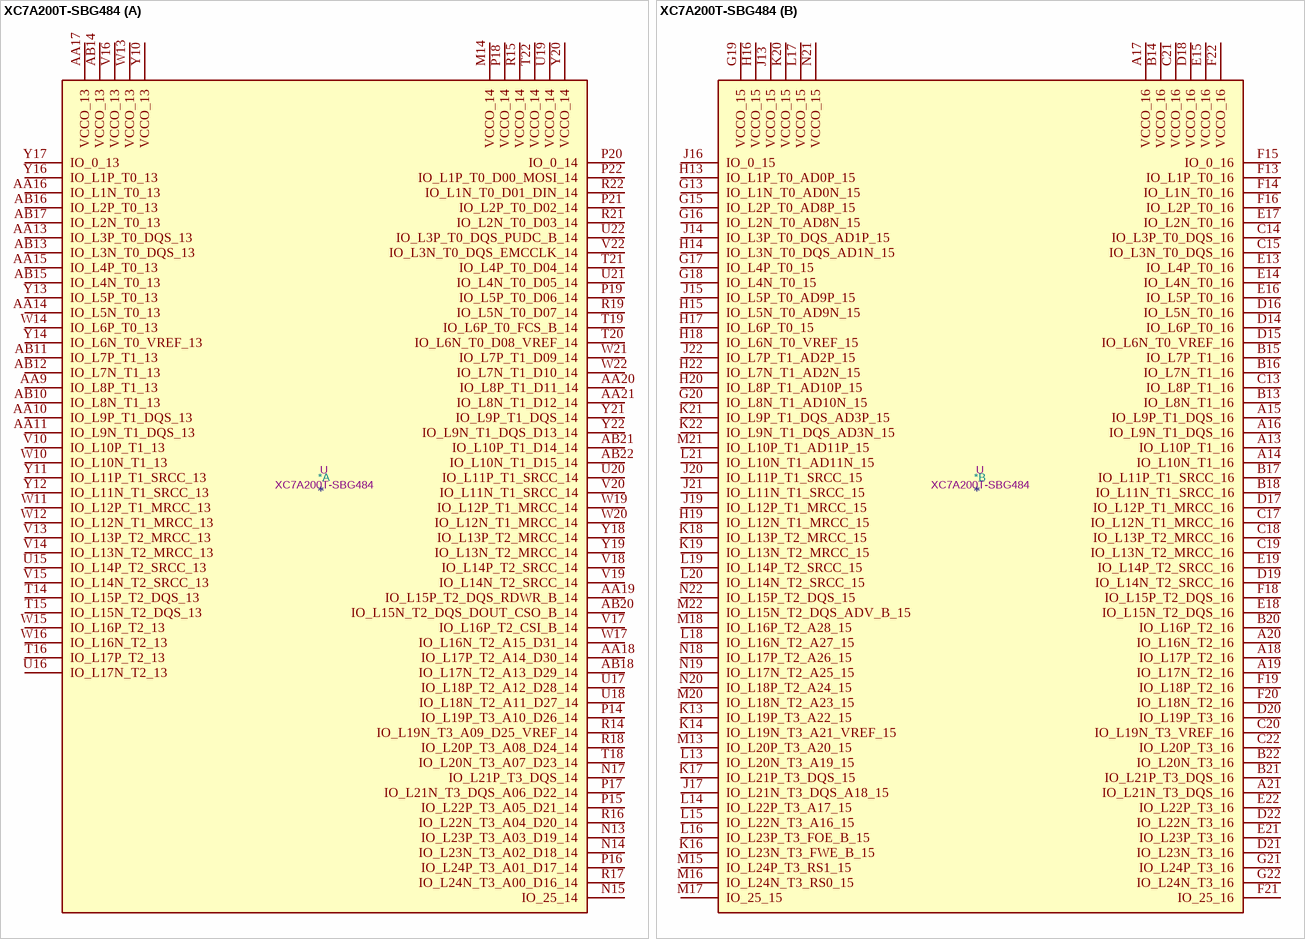
[diagram p46: symbol XC7A200T-SBG484]

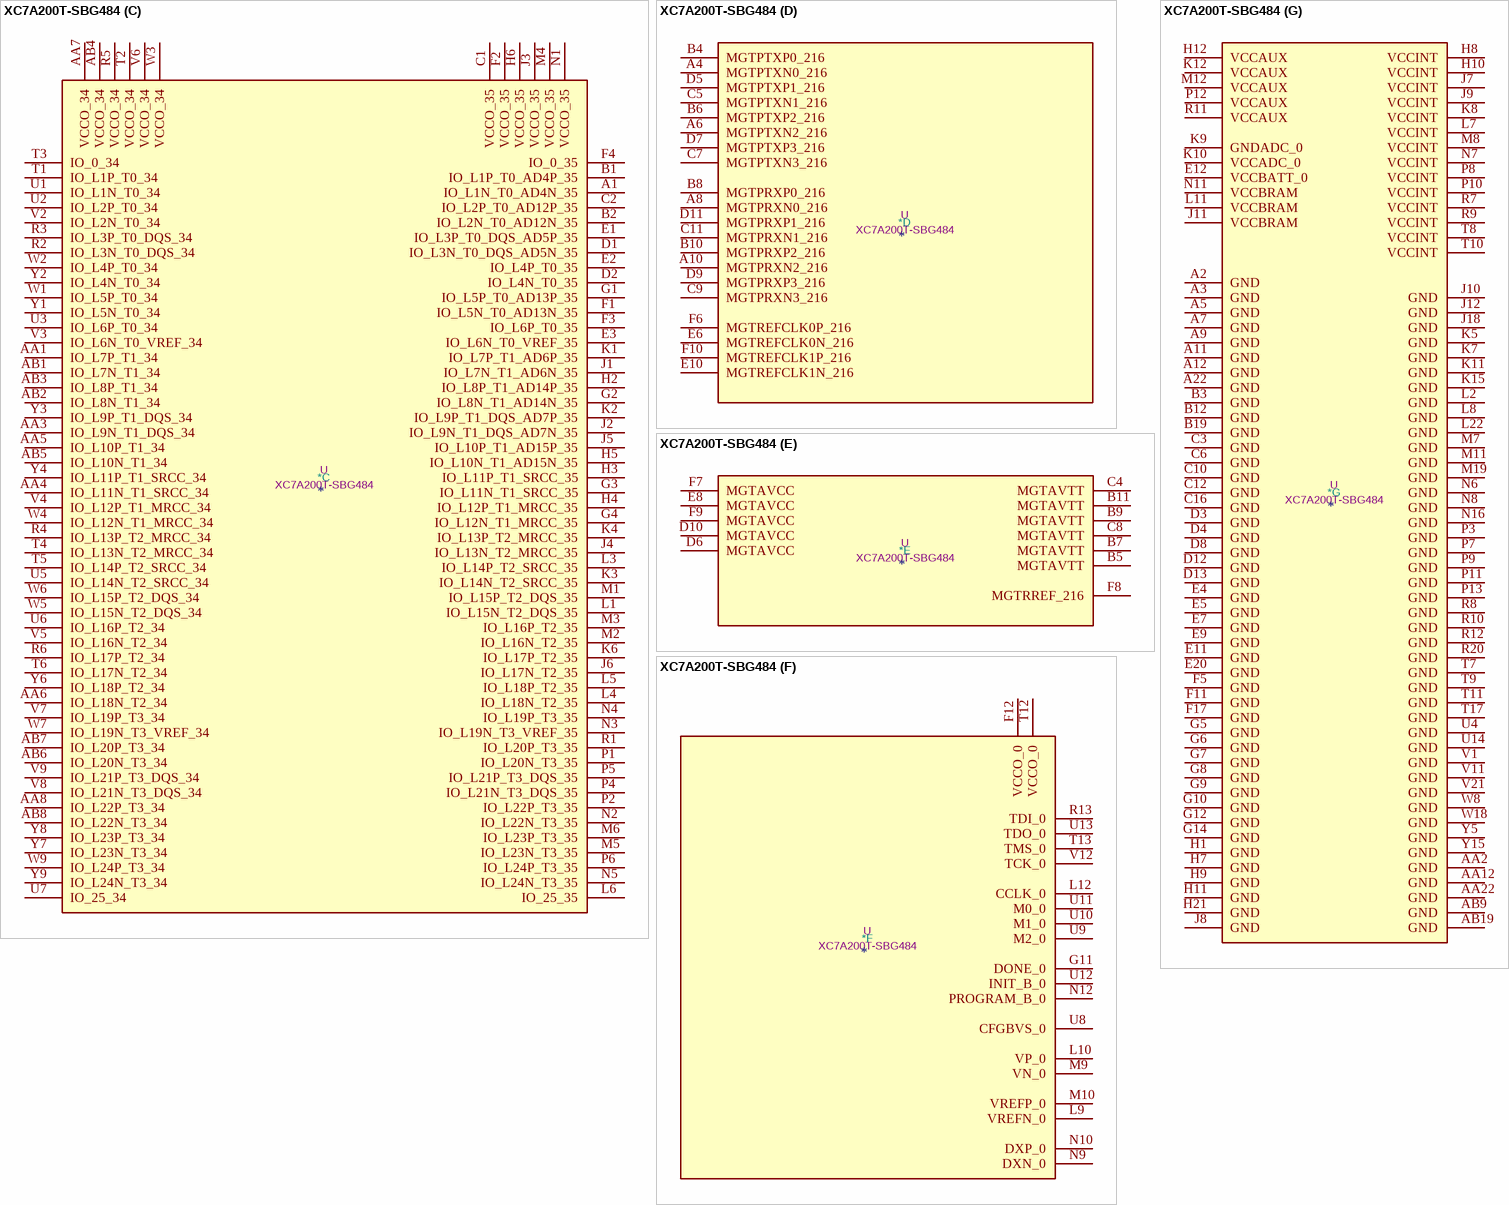
[diagram p47: symbol XC7A200T-SBG484]